# Altium integrated library VNA.IntLib: 78 symbols (part 1 of 2)
Pins are listed as number, name and electrical type; pins without a type are passive.

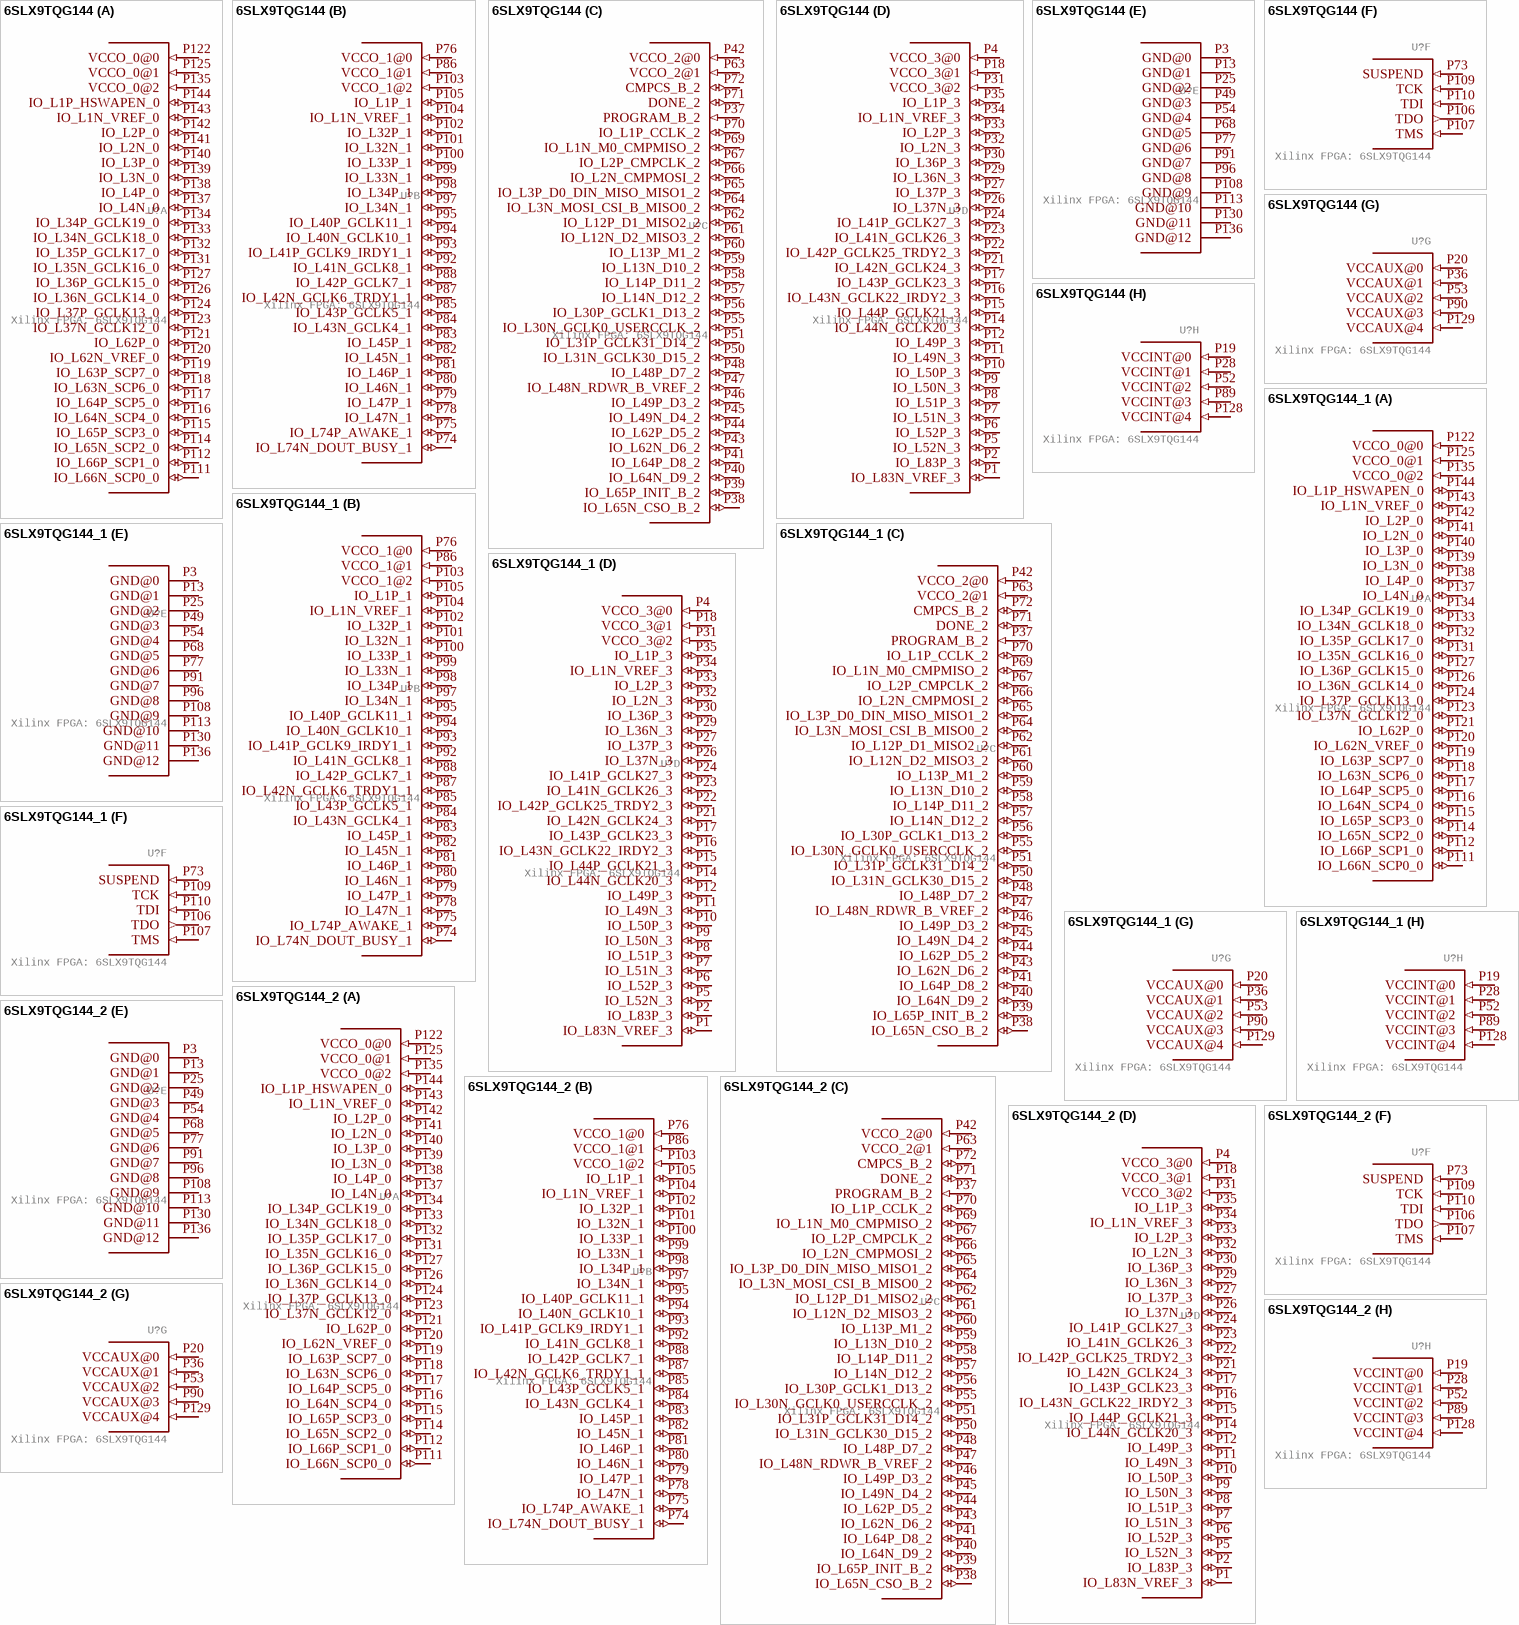
[diagram p0: symbols 6SLX9TQG144 to 6SLX9TQG144_2]

## 6SLX9TQG144
designator U?, comment Xilinx FPGA: 6SLX9TQG144
GateName_1: B0; SymbolName_1: 6SLX9TQG144_0; GateName_2: B1; SymbolName_2: 6SLX9TQG144_1; GateName_3: B2; SymbolName_3: 6SLX9TQG144_2; GateName_4: B3; SymbolName_4: 6SLX9TQG144_3; GateName_5: BGND; SymbolName_5: 6SLX9TQG144_GND; GateName_6: BNA; SymbolName_6: 6SLX9TQG144_NA; GateName_7: BVCCAUX; SymbolName_7: 6SLX9TQG144_VCCAUX; GateName_8: BVCCINT; SymbolName_8: 6SLX9TQG144_VCCINT; LibraryName: VNA; DeviceSetName: 6SLX9TQG144; Package: TQ144
footprint TQ144
part A pins: P111 IO_L66N_SCP0_0 (io), P112 IO_L66P_SCP1_0 (io), P114 IO_L65N_SCP2_0 (io), P115 IO_L65P_SCP3_0 (io), P116 IO_L64N_SCP4_0 (io), P117 IO_L64P_SCP5_0 (io), P118 IO_L63N_SCP6_0 (io), P119 IO_L63P_SCP7_0 (io), P120 IO_L62N_VREF_0 (io), P121 IO_L62P_0 (io), P122 VCCO_0@0 (in), P123 IO_L37N_GCLK12_0 (io), P124 IO_L37P_GCLK13_0 (io), P125 VCCO_0@1 (in), P126 IO_L36N_GCLK14_0 (io), P127 IO_L36P_GCLK15_0 (io), P131 IO_L35N_GCLK16_0 (io), P132 IO_L35P_GCLK17_0 (io), P133 IO_L34N_GCLK18_0 (io), P134 IO_L34P_GCLK19_0 (io), P135 VCCO_0@2 (in), P137 IO_L4N_0 (io), P138 IO_L4P_0 (io), P139 IO_L3N_0 (io), P140 IO_L3P_0 (io), P141 IO_L2N_0 (io), P142 IO_L2P_0 (io), P143 IO_L1N_VREF_0 (io), P144 IO_L1P_HSWAPEN_0 (io)
part B pins: P74 IO_L74N_DOUT_BUSY_1 (io), P75 IO_L74P_AWAKE_1 (io), P76 VCCO_1@0 (in), P78 IO_L47N_1 (io), P79 IO_L47P_1 (io), P80 IO_L46N_1 (io), P81 IO_L46P_1 (io), P82 IO_L45N_1 (io), P83 IO_L45P_1 (io), P84 IO_L43N_GCLK4_1 (io), P85 IO_L43P_GCLK5_1 (io), P86 VCCO_1@1 (in), P87 IO_L42N_GCLK6_TRDY1_1 (io), P88 IO_L42P_GCLK7_1 (io), P92 IO_L41N_GCLK8_1 (io), P93 IO_L41P_GCLK9_IRDY1_1 (io), P94 IO_L40N_GCLK10_1 (io), P95 IO_L40P_GCLK11_1 (io), P97 IO_L34N_1 (io), P98 IO_L34P_1 (io), P99 IO_L33N_1 (io), P100 IO_L33P_1 (io), P101 IO_L32N_1 (io), P102 IO_L32P_1 (io), P103 VCCO_1@2 (in), P104 IO_L1N_VREF_1 (io), P105 IO_L1P_1 (io)
part C pins: P37 PROGRAM_B_2 (in), P38 IO_L65N_CSO_B_2 (io), P39 IO_L65P_INIT_B_2 (io), P40 IO_L64N_D9_2 (io), P41 IO_L64P_D8_2 (io), P42 VCCO_2@0 (in), P43 IO_L62N_D6_2 (io), P44 IO_L62P_D5_2 (io), P45 IO_L49N_D4_2 (io), P46 IO_L49P_D3_2 (io), P47 IO_L48N_RDWR_B_VREF_2 (io), P48 IO_L48P_D7_2 (io), P50 IO_L31N_GCLK30_D15_2 (io), P51 IO_L31P_GCLK31_D14_2 (io), P55 IO_L30N_GCLK0_USERCCLK_2 (io), P56 IO_L30P_GCLK1_D13_2 (io), P57 IO_L14N_D12_2 (io), P58 IO_L14P_D11_2 (io), P59 IO_L13N_D10_2 (io), P60 IO_L13P_M1_2 (io), P61 IO_L12N_D2_MISO3_2 (io), P62 IO_L12P_D1_MISO2_2 (io), P63 VCCO_2@1 (in), P64 IO_L3N_MOSI_CSI_B_MISO0_2 (io), P65 IO_L3P_D0_DIN_MISO_MISO1_2 (io), P66 IO_L2N_CMPMOSI_2 (io), P67 IO_L2P_CMPCLK_2 (io), P69 IO_L1N_M0_CMPMISO_2 (io), P70 IO_L1P_CCLK_2 (io), P71 DONE_2 (io), P72 CMPCS_B_2 (io)
part D pins: P1 IO_L83N_VREF_3 (io), P2 IO_L83P_3 (io), P4 VCCO_3@0 (in), P5 IO_L52N_3 (io), P6 IO_L52P_3 (io), P7 IO_L51N_3 (io), P8 IO_L51P_3 (io), P9 IO_L50N_3 (io), P10 IO_L50P_3 (io), P11 IO_L49N_3 (io), P12 IO_L49P_3 (io), P14 IO_L44N_GCLK20_3 (io), P15 IO_L44P_GCLK21_3 (io), P16 IO_L43N_GCLK22_IRDY2_3 (io), P17 IO_L43P_GCLK23_3 (io), P18 VCCO_3@1 (in), P21 IO_L42N_GCLK24_3 (io), P22 IO_L42P_GCLK25_TRDY2_3 (io), P23 IO_L41N_GCLK26_3 (io), P24 IO_L41P_GCLK27_3 (io), P26 IO_L37N_3 (io), P27 IO_L37P_3 (io), P29 IO_L36N_3 (io), P30 IO_L36P_3 (io), P31 VCCO_3@2 (in), P32 IO_L2N_3 (io), P33 IO_L2P_3 (io), P34 IO_L1N_VREF_3 (io), P35 IO_L1P_3 (io)
part E pins: P3 GND@0 (power), P13 GND@1 (power), P25 GND@2 (power), P49 GND@3 (power), P54 GND@4 (power), P68 GND@5 (power), P77 GND@6 (power), P91 GND@7 (power), P96 GND@8 (power), P108 GND@9 (power), P113 GND@10 (power), P130 GND@11 (power), P136 GND@12 (power)
part F pins: P73 SUSPEND (in), P106 TDO (out), P107 TMS (in), P109 TCK (in), P110 TDI (in)
part G pins: P20 VCCAUX@0 (in), P36 VCCAUX@1 (in), P53 VCCAUX@2 (in), P90 VCCAUX@3 (in), P129 VCCAUX@4 (in)
part H pins: P19 VCCINT@0 (in), P28 VCCINT@1 (in), P52 VCCINT@2 (in), P89 VCCINT@3 (in), P128 VCCINT@4 (in)

## 6SLX9TQG144_1
designator U?, comment Xilinx FPGA: 6SLX9TQG144
GateName_1: B0; SymbolName_1: 6SLX9TQG144_0; GateName_2: B1; SymbolName_2: 6SLX9TQG144_1; GateName_3: B2; SymbolName_3: 6SLX9TQG144_2; GateName_4: B3; SymbolName_4: 6SLX9TQG144_3; GateName_5: BGND; SymbolName_5: 6SLX9TQG144_GND; GateName_6: BNA; SymbolName_6: 6SLX9TQG144_NA; GateName_7: BVCCAUX; SymbolName_7: 6SLX9TQG144_VCCAUX; GateName_8: BVCCINT; SymbolName_8: 6SLX9TQG144_VCCINT; LibraryName: VNA; DeviceSetName: 6SLX9TQG144; Package: TQ144
footprint TQ144
part A pins: P111 IO_L66N_SCP0_0 (io), P112 IO_L66P_SCP1_0 (io), P114 IO_L65N_SCP2_0 (io), P115 IO_L65P_SCP3_0 (io), P116 IO_L64N_SCP4_0 (io), P117 IO_L64P_SCP5_0 (io), P118 IO_L63N_SCP6_0 (io), P119 IO_L63P_SCP7_0 (io), P120 IO_L62N_VREF_0 (io), P121 IO_L62P_0 (io), P122 VCCO_0@0 (in), P123 IO_L37N_GCLK12_0 (io), P124 IO_L37P_GCLK13_0 (io), P125 VCCO_0@1 (in), P126 IO_L36N_GCLK14_0 (io), P127 IO_L36P_GCLK15_0 (io), P131 IO_L35N_GCLK16_0 (io), P132 IO_L35P_GCLK17_0 (io), P133 IO_L34N_GCLK18_0 (io), P134 IO_L34P_GCLK19_0 (io), P135 VCCO_0@2 (in), P137 IO_L4N_0 (io), P138 IO_L4P_0 (io), P139 IO_L3N_0 (io), P140 IO_L3P_0 (io), P141 IO_L2N_0 (io), P142 IO_L2P_0 (io), P143 IO_L1N_VREF_0 (io), P144 IO_L1P_HSWAPEN_0 (io)
part B pins: P74 IO_L74N_DOUT_BUSY_1 (io), P75 IO_L74P_AWAKE_1 (io), P76 VCCO_1@0 (in), P78 IO_L47N_1 (io), P79 IO_L47P_1 (io), P80 IO_L46N_1 (io), P81 IO_L46P_1 (io), P82 IO_L45N_1 (io), P83 IO_L45P_1 (io), P84 IO_L43N_GCLK4_1 (io), P85 IO_L43P_GCLK5_1 (io), P86 VCCO_1@1 (in), P87 IO_L42N_GCLK6_TRDY1_1 (io), P88 IO_L42P_GCLK7_1 (io), P92 IO_L41N_GCLK8_1 (io), P93 IO_L41P_GCLK9_IRDY1_1 (io), P94 IO_L40N_GCLK10_1 (io), P95 IO_L40P_GCLK11_1 (io), P97 IO_L34N_1 (io), P98 IO_L34P_1 (io), P99 IO_L33N_1 (io), P100 IO_L33P_1 (io), P101 IO_L32N_1 (io), P102 IO_L32P_1 (io), P103 VCCO_1@2 (in), P104 IO_L1N_VREF_1 (io), P105 IO_L1P_1 (io)
part C pins: P37 PROGRAM_B_2 (in), P38 IO_L65N_CSO_B_2 (io), P39 IO_L65P_INIT_B_2 (io), P40 IO_L64N_D9_2 (io), P41 IO_L64P_D8_2 (io), P42 VCCO_2@0 (in), P43 IO_L62N_D6_2 (io), P44 IO_L62P_D5_2 (io), P45 IO_L49N_D4_2 (io), P46 IO_L49P_D3_2 (io), P47 IO_L48N_RDWR_B_VREF_2 (io), P48 IO_L48P_D7_2 (io), P50 IO_L31N_GCLK30_D15_2 (io), P51 IO_L31P_GCLK31_D14_2 (io), P55 IO_L30N_GCLK0_USERCCLK_2 (io), P56 IO_L30P_GCLK1_D13_2 (io), P57 IO_L14N_D12_2 (io), P58 IO_L14P_D11_2 (io), P59 IO_L13N_D10_2 (io), P60 IO_L13P_M1_2 (io), P61 IO_L12N_D2_MISO3_2 (io), P62 IO_L12P_D1_MISO2_2 (io), P63 VCCO_2@1 (in), P64 IO_L3N_MOSI_CSI_B_MISO0_2 (io), P65 IO_L3P_D0_DIN_MISO_MISO1_2 (io), P66 IO_L2N_CMPMOSI_2 (io), P67 IO_L2P_CMPCLK_2 (io), P69 IO_L1N_M0_CMPMISO_2 (io), P70 IO_L1P_CCLK_2 (io), P71 DONE_2 (io), P72 CMPCS_B_2 (io)
part D pins: P1 IO_L83N_VREF_3 (io), P2 IO_L83P_3 (io), P4 VCCO_3@0 (in), P5 IO_L52N_3 (io), P6 IO_L52P_3 (io), P7 IO_L51N_3 (io), P8 IO_L51P_3 (io), P9 IO_L50N_3 (io), P10 IO_L50P_3 (io), P11 IO_L49N_3 (io), P12 IO_L49P_3 (io), P14 IO_L44N_GCLK20_3 (io), P15 IO_L44P_GCLK21_3 (io), P16 IO_L43N_GCLK22_IRDY2_3 (io), P17 IO_L43P_GCLK23_3 (io), P18 VCCO_3@1 (in), P21 IO_L42N_GCLK24_3 (io), P22 IO_L42P_GCLK25_TRDY2_3 (io), P23 IO_L41N_GCLK26_3 (io), P24 IO_L41P_GCLK27_3 (io), P26 IO_L37N_3 (io), P27 IO_L37P_3 (io), P29 IO_L36N_3 (io), P30 IO_L36P_3 (io), P31 VCCO_3@2 (in), P32 IO_L2N_3 (io), P33 IO_L2P_3 (io), P34 IO_L1N_VREF_3 (io), P35 IO_L1P_3 (io)
part E pins: P3 GND@0 (power), P13 GND@1 (power), P25 GND@2 (power), P49 GND@3 (power), P54 GND@4 (power), P68 GND@5 (power), P77 GND@6 (power), P91 GND@7 (power), P96 GND@8 (power), P108 GND@9 (power), P113 GND@10 (power), P130 GND@11 (power), P136 GND@12 (power)
part F pins: P73 SUSPEND (in), P106 TDO (out), P107 TMS (in), P109 TCK (in), P110 TDI (in)
part G pins: P20 VCCAUX@0 (in), P36 VCCAUX@1 (in), P53 VCCAUX@2 (in), P90 VCCAUX@3 (in), P129 VCCAUX@4 (in)
part H pins: P19 VCCINT@0 (in), P28 VCCINT@1 (in), P52 VCCINT@2 (in), P89 VCCINT@3 (in), P128 VCCINT@4 (in)

## 6SLX9TQG144_2
designator U?, comment Xilinx FPGA: 6SLX9TQG144
GateName_1: B0; SymbolName_1: 6SLX9TQG144_0; GateName_2: B1; SymbolName_2: 6SLX9TQG144_1; GateName_3: B2; SymbolName_3: 6SLX9TQG144_2; GateName_4: B3; SymbolName_4: 6SLX9TQG144_3; GateName_5: BGND; SymbolName_5: 6SLX9TQG144_GND; GateName_6: BNA; SymbolName_6: 6SLX9TQG144_NA; GateName_7: BVCCAUX; SymbolName_7: 6SLX9TQG144_VCCAUX; GateName_8: BVCCINT; SymbolName_8: 6SLX9TQG144_VCCINT; LibraryName: VNA; DeviceSetName: 6SLX9TQG144; Package: TQ144
footprint TQ144
part A pins: P111 IO_L66N_SCP0_0 (io), P112 IO_L66P_SCP1_0 (io), P114 IO_L65N_SCP2_0 (io), P115 IO_L65P_SCP3_0 (io), P116 IO_L64N_SCP4_0 (io), P117 IO_L64P_SCP5_0 (io), P118 IO_L63N_SCP6_0 (io), P119 IO_L63P_SCP7_0 (io), P120 IO_L62N_VREF_0 (io), P121 IO_L62P_0 (io), P122 VCCO_0@0 (in), P123 IO_L37N_GCLK12_0 (io), P124 IO_L37P_GCLK13_0 (io), P125 VCCO_0@1 (in), P126 IO_L36N_GCLK14_0 (io), P127 IO_L36P_GCLK15_0 (io), P131 IO_L35N_GCLK16_0 (io), P132 IO_L35P_GCLK17_0 (io), P133 IO_L34N_GCLK18_0 (io), P134 IO_L34P_GCLK19_0 (io), P135 VCCO_0@2 (in), P137 IO_L4N_0 (io), P138 IO_L4P_0 (io), P139 IO_L3N_0 (io), P140 IO_L3P_0 (io), P141 IO_L2N_0 (io), P142 IO_L2P_0 (io), P143 IO_L1N_VREF_0 (io), P144 IO_L1P_HSWAPEN_0 (io)
part B pins: P74 IO_L74N_DOUT_BUSY_1 (io), P75 IO_L74P_AWAKE_1 (io), P76 VCCO_1@0 (in), P78 IO_L47N_1 (io), P79 IO_L47P_1 (io), P80 IO_L46N_1 (io), P81 IO_L46P_1 (io), P82 IO_L45N_1 (io), P83 IO_L45P_1 (io), P84 IO_L43N_GCLK4_1 (io), P85 IO_L43P_GCLK5_1 (io), P86 VCCO_1@1 (in), P87 IO_L42N_GCLK6_TRDY1_1 (io), P88 IO_L42P_GCLK7_1 (io), P92 IO_L41N_GCLK8_1 (io), P93 IO_L41P_GCLK9_IRDY1_1 (io), P94 IO_L40N_GCLK10_1 (io), P95 IO_L40P_GCLK11_1 (io), P97 IO_L34N_1 (io), P98 IO_L34P_1 (io), P99 IO_L33N_1 (io), P100 IO_L33P_1 (io), P101 IO_L32N_1 (io), P102 IO_L32P_1 (io), P103 VCCO_1@2 (in), P104 IO_L1N_VREF_1 (io), P105 IO_L1P_1 (io)
part C pins: P37 PROGRAM_B_2 (in), P38 IO_L65N_CSO_B_2 (io), P39 IO_L65P_INIT_B_2 (io), P40 IO_L64N_D9_2 (io), P41 IO_L64P_D8_2 (io), P42 VCCO_2@0 (in), P43 IO_L62N_D6_2 (io), P44 IO_L62P_D5_2 (io), P45 IO_L49N_D4_2 (io), P46 IO_L49P_D3_2 (io), P47 IO_L48N_RDWR_B_VREF_2 (io), P48 IO_L48P_D7_2 (io), P50 IO_L31N_GCLK30_D15_2 (io), P51 IO_L31P_GCLK31_D14_2 (io), P55 IO_L30N_GCLK0_USERCCLK_2 (io), P56 IO_L30P_GCLK1_D13_2 (io), P57 IO_L14N_D12_2 (io), P58 IO_L14P_D11_2 (io), P59 IO_L13N_D10_2 (io), P60 IO_L13P_M1_2 (io), P61 IO_L12N_D2_MISO3_2 (io), P62 IO_L12P_D1_MISO2_2 (io), P63 VCCO_2@1 (in), P64 IO_L3N_MOSI_CSI_B_MISO0_2 (io), P65 IO_L3P_D0_DIN_MISO_MISO1_2 (io), P66 IO_L2N_CMPMOSI_2 (io), P67 IO_L2P_CMPCLK_2 (io), P69 IO_L1N_M0_CMPMISO_2 (io), P70 IO_L1P_CCLK_2 (io), P71 DONE_2 (io), P72 CMPCS_B_2 (io)
part D pins: P1 IO_L83N_VREF_3 (io), P2 IO_L83P_3 (io), P4 VCCO_3@0 (in), P5 IO_L52N_3 (io), P6 IO_L52P_3 (io), P7 IO_L51N_3 (io), P8 IO_L51P_3 (io), P9 IO_L50N_3 (io), P10 IO_L50P_3 (io), P11 IO_L49N_3 (io), P12 IO_L49P_3 (io), P14 IO_L44N_GCLK20_3 (io), P15 IO_L44P_GCLK21_3 (io), P16 IO_L43N_GCLK22_IRDY2_3 (io), P17 IO_L43P_GCLK23_3 (io), P18 VCCO_3@1 (in), P21 IO_L42N_GCLK24_3 (io), P22 IO_L42P_GCLK25_TRDY2_3 (io), P23 IO_L41N_GCLK26_3 (io), P24 IO_L41P_GCLK27_3 (io), P26 IO_L37N_3 (io), P27 IO_L37P_3 (io), P29 IO_L36N_3 (io), P30 IO_L36P_3 (io), P31 VCCO_3@2 (in), P32 IO_L2N_3 (io), P33 IO_L2P_3 (io), P34 IO_L1N_VREF_3 (io), P35 IO_L1P_3 (io)
part E pins: P3 GND@0 (power), P13 GND@1 (power), P25 GND@2 (power), P49 GND@3 (power), P54 GND@4 (power), P68 GND@5 (power), P77 GND@6 (power), P91 GND@7 (power), P96 GND@8 (power), P108 GND@9 (power), P113 GND@10 (power), P130 GND@11 (power), P136 GND@12 (power)
part F pins: P73 SUSPEND (in), P106 TDO (out), P107 TMS (in), P109 TCK (in), P110 TDI (in)
part G pins: P20 VCCAUX@0 (in), P36 VCCAUX@1 (in), P53 VCCAUX@2 (in), P90 VCCAUX@3 (in), P129 VCCAUX@4 (in)
part H pins: P19 VCCINT@0 (in), P28 VCCINT@1 (in), P52 VCCINT@2 (in), P89 VCCINT@3 (in), P128 VCCINT@4 (in)

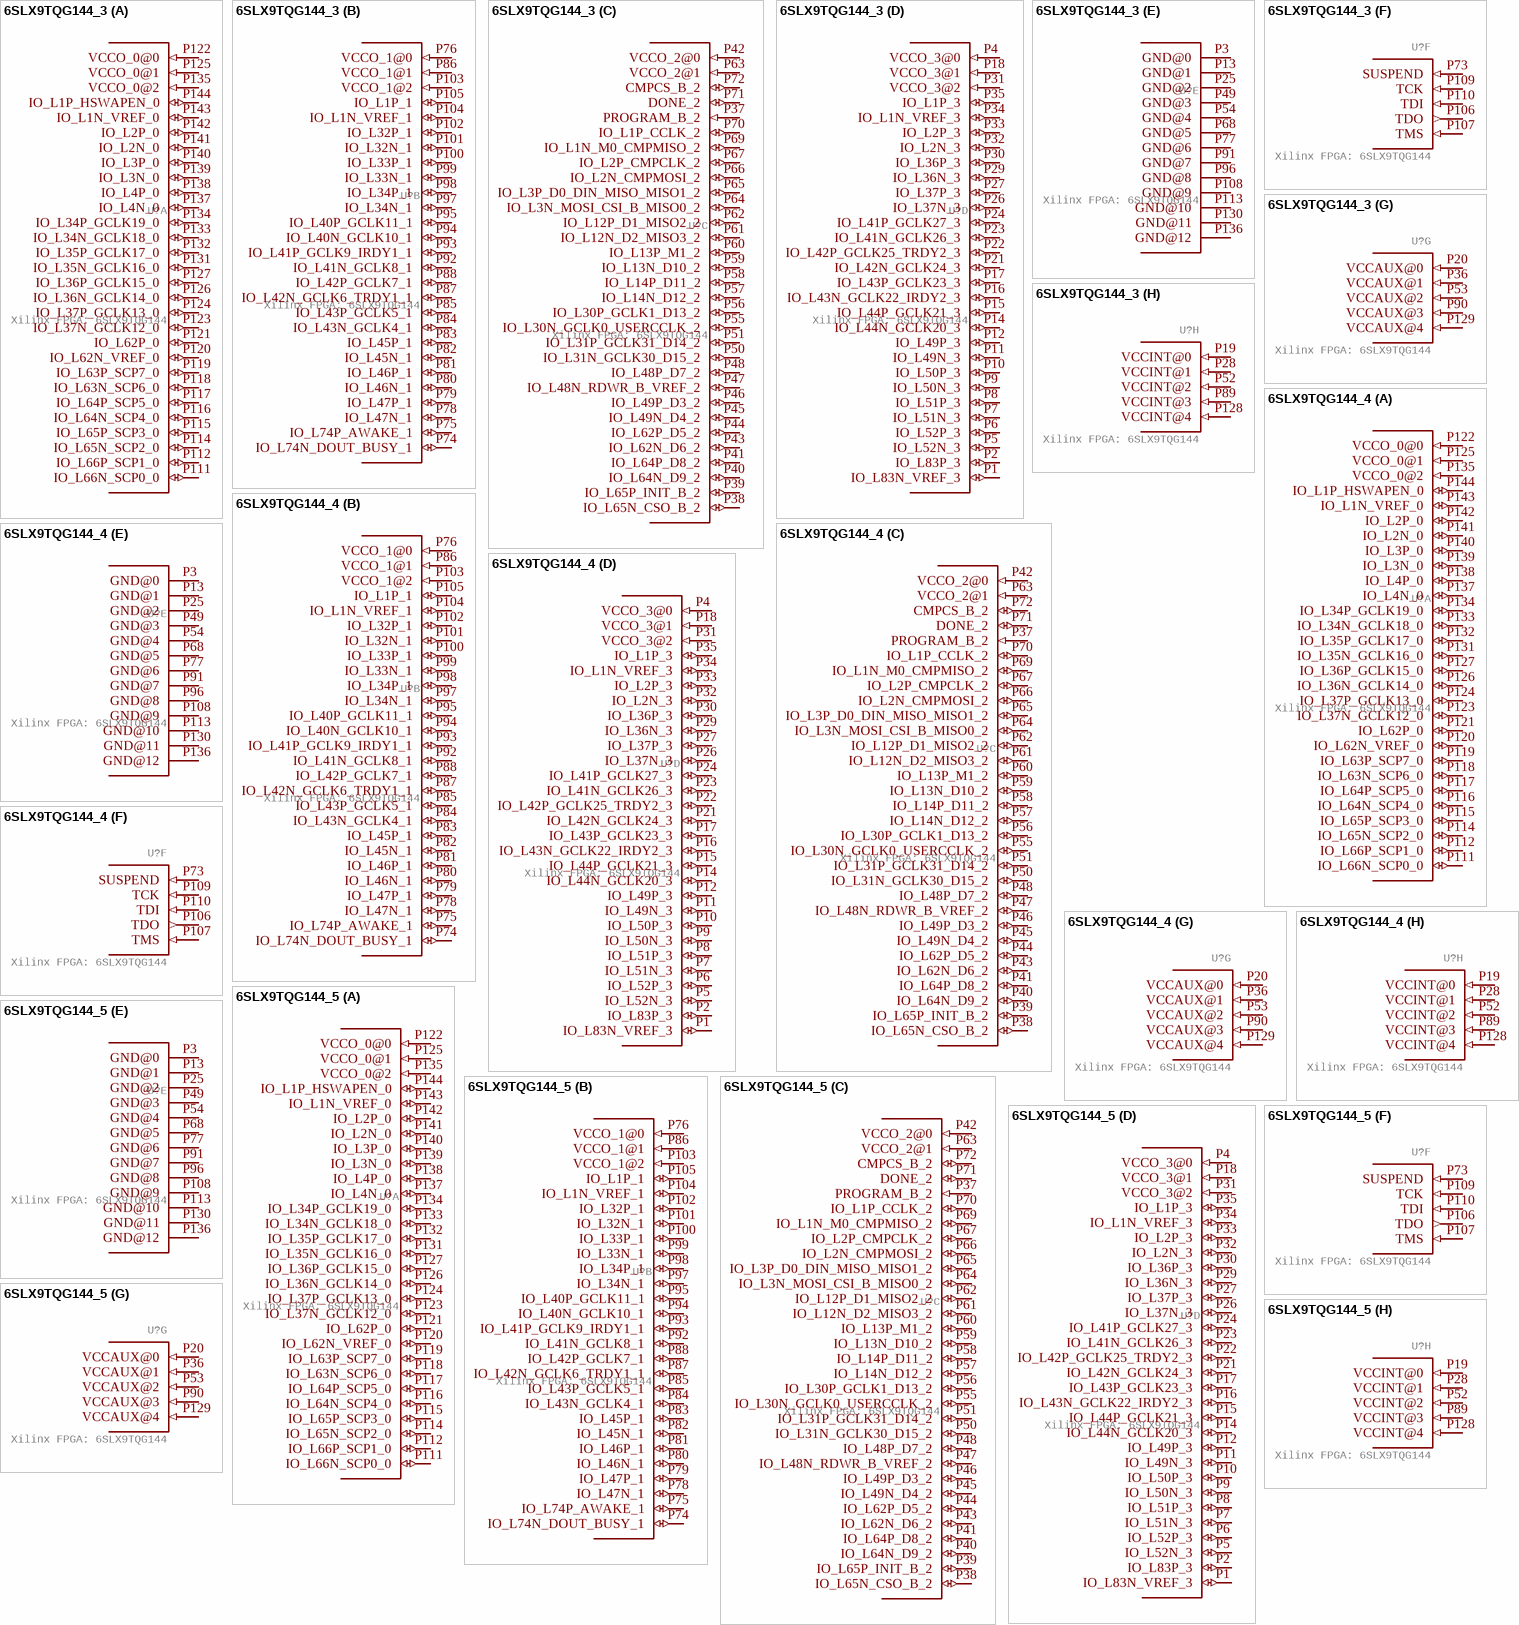
[diagram p1: symbols 6SLX9TQG144_3 to 6SLX9TQG144_5]

## 6SLX9TQG144_3
designator U?, comment Xilinx FPGA: 6SLX9TQG144
GateName_1: B0; SymbolName_1: 6SLX9TQG144_0; GateName_2: B1; SymbolName_2: 6SLX9TQG144_1; GateName_3: B2; SymbolName_3: 6SLX9TQG144_2; GateName_4: B3; SymbolName_4: 6SLX9TQG144_3; GateName_5: BGND; SymbolName_5: 6SLX9TQG144_GND; GateName_6: BNA; SymbolName_6: 6SLX9TQG144_NA; GateName_7: BVCCAUX; SymbolName_7: 6SLX9TQG144_VCCAUX; GateName_8: BVCCINT; SymbolName_8: 6SLX9TQG144_VCCINT; LibraryName: VNA; DeviceSetName: 6SLX9TQG144; Package: TQ144
footprint TQ144
part A pins: P111 IO_L66N_SCP0_0 (io), P112 IO_L66P_SCP1_0 (io), P114 IO_L65N_SCP2_0 (io), P115 IO_L65P_SCP3_0 (io), P116 IO_L64N_SCP4_0 (io), P117 IO_L64P_SCP5_0 (io), P118 IO_L63N_SCP6_0 (io), P119 IO_L63P_SCP7_0 (io), P120 IO_L62N_VREF_0 (io), P121 IO_L62P_0 (io), P122 VCCO_0@0 (in), P123 IO_L37N_GCLK12_0 (io), P124 IO_L37P_GCLK13_0 (io), P125 VCCO_0@1 (in), P126 IO_L36N_GCLK14_0 (io), P127 IO_L36P_GCLK15_0 (io), P131 IO_L35N_GCLK16_0 (io), P132 IO_L35P_GCLK17_0 (io), P133 IO_L34N_GCLK18_0 (io), P134 IO_L34P_GCLK19_0 (io), P135 VCCO_0@2 (in), P137 IO_L4N_0 (io), P138 IO_L4P_0 (io), P139 IO_L3N_0 (io), P140 IO_L3P_0 (io), P141 IO_L2N_0 (io), P142 IO_L2P_0 (io), P143 IO_L1N_VREF_0 (io), P144 IO_L1P_HSWAPEN_0 (io)
part B pins: P74 IO_L74N_DOUT_BUSY_1 (io), P75 IO_L74P_AWAKE_1 (io), P76 VCCO_1@0 (in), P78 IO_L47N_1 (io), P79 IO_L47P_1 (io), P80 IO_L46N_1 (io), P81 IO_L46P_1 (io), P82 IO_L45N_1 (io), P83 IO_L45P_1 (io), P84 IO_L43N_GCLK4_1 (io), P85 IO_L43P_GCLK5_1 (io), P86 VCCO_1@1 (in), P87 IO_L42N_GCLK6_TRDY1_1 (io), P88 IO_L42P_GCLK7_1 (io), P92 IO_L41N_GCLK8_1 (io), P93 IO_L41P_GCLK9_IRDY1_1 (io), P94 IO_L40N_GCLK10_1 (io), P95 IO_L40P_GCLK11_1 (io), P97 IO_L34N_1 (io), P98 IO_L34P_1 (io), P99 IO_L33N_1 (io), P100 IO_L33P_1 (io), P101 IO_L32N_1 (io), P102 IO_L32P_1 (io), P103 VCCO_1@2 (in), P104 IO_L1N_VREF_1 (io), P105 IO_L1P_1 (io)
part C pins: P37 PROGRAM_B_2 (in), P38 IO_L65N_CSO_B_2 (io), P39 IO_L65P_INIT_B_2 (io), P40 IO_L64N_D9_2 (io), P41 IO_L64P_D8_2 (io), P42 VCCO_2@0 (in), P43 IO_L62N_D6_2 (io), P44 IO_L62P_D5_2 (io), P45 IO_L49N_D4_2 (io), P46 IO_L49P_D3_2 (io), P47 IO_L48N_RDWR_B_VREF_2 (io), P48 IO_L48P_D7_2 (io), P50 IO_L31N_GCLK30_D15_2 (io), P51 IO_L31P_GCLK31_D14_2 (io), P55 IO_L30N_GCLK0_USERCCLK_2 (io), P56 IO_L30P_GCLK1_D13_2 (io), P57 IO_L14N_D12_2 (io), P58 IO_L14P_D11_2 (io), P59 IO_L13N_D10_2 (io), P60 IO_L13P_M1_2 (io), P61 IO_L12N_D2_MISO3_2 (io), P62 IO_L12P_D1_MISO2_2 (io), P63 VCCO_2@1 (in), P64 IO_L3N_MOSI_CSI_B_MISO0_2 (io), P65 IO_L3P_D0_DIN_MISO_MISO1_2 (io), P66 IO_L2N_CMPMOSI_2 (io), P67 IO_L2P_CMPCLK_2 (io), P69 IO_L1N_M0_CMPMISO_2 (io), P70 IO_L1P_CCLK_2 (io), P71 DONE_2 (io), P72 CMPCS_B_2 (io)
part D pins: P1 IO_L83N_VREF_3 (io), P2 IO_L83P_3 (io), P4 VCCO_3@0 (in), P5 IO_L52N_3 (io), P6 IO_L52P_3 (io), P7 IO_L51N_3 (io), P8 IO_L51P_3 (io), P9 IO_L50N_3 (io), P10 IO_L50P_3 (io), P11 IO_L49N_3 (io), P12 IO_L49P_3 (io), P14 IO_L44N_GCLK20_3 (io), P15 IO_L44P_GCLK21_3 (io), P16 IO_L43N_GCLK22_IRDY2_3 (io), P17 IO_L43P_GCLK23_3 (io), P18 VCCO_3@1 (in), P21 IO_L42N_GCLK24_3 (io), P22 IO_L42P_GCLK25_TRDY2_3 (io), P23 IO_L41N_GCLK26_3 (io), P24 IO_L41P_GCLK27_3 (io), P26 IO_L37N_3 (io), P27 IO_L37P_3 (io), P29 IO_L36N_3 (io), P30 IO_L36P_3 (io), P31 VCCO_3@2 (in), P32 IO_L2N_3 (io), P33 IO_L2P_3 (io), P34 IO_L1N_VREF_3 (io), P35 IO_L1P_3 (io)
part E pins: P3 GND@0 (power), P13 GND@1 (power), P25 GND@2 (power), P49 GND@3 (power), P54 GND@4 (power), P68 GND@5 (power), P77 GND@6 (power), P91 GND@7 (power), P96 GND@8 (power), P108 GND@9 (power), P113 GND@10 (power), P130 GND@11 (power), P136 GND@12 (power)
part F pins: P73 SUSPEND (in), P106 TDO (out), P107 TMS (in), P109 TCK (in), P110 TDI (in)
part G pins: P20 VCCAUX@0 (in), P36 VCCAUX@1 (in), P53 VCCAUX@2 (in), P90 VCCAUX@3 (in), P129 VCCAUX@4 (in)
part H pins: P19 VCCINT@0 (in), P28 VCCINT@1 (in), P52 VCCINT@2 (in), P89 VCCINT@3 (in), P128 VCCINT@4 (in)

## 6SLX9TQG144_4
designator U?, comment Xilinx FPGA: 6SLX9TQG144
GateName_1: B0; SymbolName_1: 6SLX9TQG144_0; GateName_2: B1; SymbolName_2: 6SLX9TQG144_1; GateName_3: B2; SymbolName_3: 6SLX9TQG144_2; GateName_4: B3; SymbolName_4: 6SLX9TQG144_3; GateName_5: BGND; SymbolName_5: 6SLX9TQG144_GND; GateName_6: BNA; SymbolName_6: 6SLX9TQG144_NA; GateName_7: BVCCAUX; SymbolName_7: 6SLX9TQG144_VCCAUX; GateName_8: BVCCINT; SymbolName_8: 6SLX9TQG144_VCCINT; LibraryName: VNA; DeviceSetName: 6SLX9TQG144; Package: TQ144
footprint TQ144
part A pins: P111 IO_L66N_SCP0_0 (io), P112 IO_L66P_SCP1_0 (io), P114 IO_L65N_SCP2_0 (io), P115 IO_L65P_SCP3_0 (io), P116 IO_L64N_SCP4_0 (io), P117 IO_L64P_SCP5_0 (io), P118 IO_L63N_SCP6_0 (io), P119 IO_L63P_SCP7_0 (io), P120 IO_L62N_VREF_0 (io), P121 IO_L62P_0 (io), P122 VCCO_0@0 (in), P123 IO_L37N_GCLK12_0 (io), P124 IO_L37P_GCLK13_0 (io), P125 VCCO_0@1 (in), P126 IO_L36N_GCLK14_0 (io), P127 IO_L36P_GCLK15_0 (io), P131 IO_L35N_GCLK16_0 (io), P132 IO_L35P_GCLK17_0 (io), P133 IO_L34N_GCLK18_0 (io), P134 IO_L34P_GCLK19_0 (io), P135 VCCO_0@2 (in), P137 IO_L4N_0 (io), P138 IO_L4P_0 (io), P139 IO_L3N_0 (io), P140 IO_L3P_0 (io), P141 IO_L2N_0 (io), P142 IO_L2P_0 (io), P143 IO_L1N_VREF_0 (io), P144 IO_L1P_HSWAPEN_0 (io)
part B pins: P74 IO_L74N_DOUT_BUSY_1 (io), P75 IO_L74P_AWAKE_1 (io), P76 VCCO_1@0 (in), P78 IO_L47N_1 (io), P79 IO_L47P_1 (io), P80 IO_L46N_1 (io), P81 IO_L46P_1 (io), P82 IO_L45N_1 (io), P83 IO_L45P_1 (io), P84 IO_L43N_GCLK4_1 (io), P85 IO_L43P_GCLK5_1 (io), P86 VCCO_1@1 (in), P87 IO_L42N_GCLK6_TRDY1_1 (io), P88 IO_L42P_GCLK7_1 (io), P92 IO_L41N_GCLK8_1 (io), P93 IO_L41P_GCLK9_IRDY1_1 (io), P94 IO_L40N_GCLK10_1 (io), P95 IO_L40P_GCLK11_1 (io), P97 IO_L34N_1 (io), P98 IO_L34P_1 (io), P99 IO_L33N_1 (io), P100 IO_L33P_1 (io), P101 IO_L32N_1 (io), P102 IO_L32P_1 (io), P103 VCCO_1@2 (in), P104 IO_L1N_VREF_1 (io), P105 IO_L1P_1 (io)
part C pins: P37 PROGRAM_B_2 (in), P38 IO_L65N_CSO_B_2 (io), P39 IO_L65P_INIT_B_2 (io), P40 IO_L64N_D9_2 (io), P41 IO_L64P_D8_2 (io), P42 VCCO_2@0 (in), P43 IO_L62N_D6_2 (io), P44 IO_L62P_D5_2 (io), P45 IO_L49N_D4_2 (io), P46 IO_L49P_D3_2 (io), P47 IO_L48N_RDWR_B_VREF_2 (io), P48 IO_L48P_D7_2 (io), P50 IO_L31N_GCLK30_D15_2 (io), P51 IO_L31P_GCLK31_D14_2 (io), P55 IO_L30N_GCLK0_USERCCLK_2 (io), P56 IO_L30P_GCLK1_D13_2 (io), P57 IO_L14N_D12_2 (io), P58 IO_L14P_D11_2 (io), P59 IO_L13N_D10_2 (io), P60 IO_L13P_M1_2 (io), P61 IO_L12N_D2_MISO3_2 (io), P62 IO_L12P_D1_MISO2_2 (io), P63 VCCO_2@1 (in), P64 IO_L3N_MOSI_CSI_B_MISO0_2 (io), P65 IO_L3P_D0_DIN_MISO_MISO1_2 (io), P66 IO_L2N_CMPMOSI_2 (io), P67 IO_L2P_CMPCLK_2 (io), P69 IO_L1N_M0_CMPMISO_2 (io), P70 IO_L1P_CCLK_2 (io), P71 DONE_2 (io), P72 CMPCS_B_2 (io)
part D pins: P1 IO_L83N_VREF_3 (io), P2 IO_L83P_3 (io), P4 VCCO_3@0 (in), P5 IO_L52N_3 (io), P6 IO_L52P_3 (io), P7 IO_L51N_3 (io), P8 IO_L51P_3 (io), P9 IO_L50N_3 (io), P10 IO_L50P_3 (io), P11 IO_L49N_3 (io), P12 IO_L49P_3 (io), P14 IO_L44N_GCLK20_3 (io), P15 IO_L44P_GCLK21_3 (io), P16 IO_L43N_GCLK22_IRDY2_3 (io), P17 IO_L43P_GCLK23_3 (io), P18 VCCO_3@1 (in), P21 IO_L42N_GCLK24_3 (io), P22 IO_L42P_GCLK25_TRDY2_3 (io), P23 IO_L41N_GCLK26_3 (io), P24 IO_L41P_GCLK27_3 (io), P26 IO_L37N_3 (io), P27 IO_L37P_3 (io), P29 IO_L36N_3 (io), P30 IO_L36P_3 (io), P31 VCCO_3@2 (in), P32 IO_L2N_3 (io), P33 IO_L2P_3 (io), P34 IO_L1N_VREF_3 (io), P35 IO_L1P_3 (io)
part E pins: P3 GND@0 (power), P13 GND@1 (power), P25 GND@2 (power), P49 GND@3 (power), P54 GND@4 (power), P68 GND@5 (power), P77 GND@6 (power), P91 GND@7 (power), P96 GND@8 (power), P108 GND@9 (power), P113 GND@10 (power), P130 GND@11 (power), P136 GND@12 (power)
part F pins: P73 SUSPEND (in), P106 TDO (out), P107 TMS (in), P109 TCK (in), P110 TDI (in)
part G pins: P20 VCCAUX@0 (in), P36 VCCAUX@1 (in), P53 VCCAUX@2 (in), P90 VCCAUX@3 (in), P129 VCCAUX@4 (in)
part H pins: P19 VCCINT@0 (in), P28 VCCINT@1 (in), P52 VCCINT@2 (in), P89 VCCINT@3 (in), P128 VCCINT@4 (in)

## 6SLX9TQG144_5
designator U?, comment Xilinx FPGA: 6SLX9TQG144
GateName_1: B0; SymbolName_1: 6SLX9TQG144_0; GateName_2: B1; SymbolName_2: 6SLX9TQG144_1; GateName_3: B2; SymbolName_3: 6SLX9TQG144_2; GateName_4: B3; SymbolName_4: 6SLX9TQG144_3; GateName_5: BGND; SymbolName_5: 6SLX9TQG144_GND; GateName_6: BNA; SymbolName_6: 6SLX9TQG144_NA; GateName_7: BVCCAUX; SymbolName_7: 6SLX9TQG144_VCCAUX; GateName_8: BVCCINT; SymbolName_8: 6SLX9TQG144_VCCINT; LibraryName: VNA; DeviceSetName: 6SLX9TQG144; Package: TQ144
footprint TQ144
part A pins: P111 IO_L66N_SCP0_0 (io), P112 IO_L66P_SCP1_0 (io), P114 IO_L65N_SCP2_0 (io), P115 IO_L65P_SCP3_0 (io), P116 IO_L64N_SCP4_0 (io), P117 IO_L64P_SCP5_0 (io), P118 IO_L63N_SCP6_0 (io), P119 IO_L63P_SCP7_0 (io), P120 IO_L62N_VREF_0 (io), P121 IO_L62P_0 (io), P122 VCCO_0@0 (in), P123 IO_L37N_GCLK12_0 (io), P124 IO_L37P_GCLK13_0 (io), P125 VCCO_0@1 (in), P126 IO_L36N_GCLK14_0 (io), P127 IO_L36P_GCLK15_0 (io), P131 IO_L35N_GCLK16_0 (io), P132 IO_L35P_GCLK17_0 (io), P133 IO_L34N_GCLK18_0 (io), P134 IO_L34P_GCLK19_0 (io), P135 VCCO_0@2 (in), P137 IO_L4N_0 (io), P138 IO_L4P_0 (io), P139 IO_L3N_0 (io), P140 IO_L3P_0 (io), P141 IO_L2N_0 (io), P142 IO_L2P_0 (io), P143 IO_L1N_VREF_0 (io), P144 IO_L1P_HSWAPEN_0 (io)
part B pins: P74 IO_L74N_DOUT_BUSY_1 (io), P75 IO_L74P_AWAKE_1 (io), P76 VCCO_1@0 (in), P78 IO_L47N_1 (io), P79 IO_L47P_1 (io), P80 IO_L46N_1 (io), P81 IO_L46P_1 (io), P82 IO_L45N_1 (io), P83 IO_L45P_1 (io), P84 IO_L43N_GCLK4_1 (io), P85 IO_L43P_GCLK5_1 (io), P86 VCCO_1@1 (in), P87 IO_L42N_GCLK6_TRDY1_1 (io), P88 IO_L42P_GCLK7_1 (io), P92 IO_L41N_GCLK8_1 (io), P93 IO_L41P_GCLK9_IRDY1_1 (io), P94 IO_L40N_GCLK10_1 (io), P95 IO_L40P_GCLK11_1 (io), P97 IO_L34N_1 (io), P98 IO_L34P_1 (io), P99 IO_L33N_1 (io), P100 IO_L33P_1 (io), P101 IO_L32N_1 (io), P102 IO_L32P_1 (io), P103 VCCO_1@2 (in), P104 IO_L1N_VREF_1 (io), P105 IO_L1P_1 (io)
part C pins: P37 PROGRAM_B_2 (in), P38 IO_L65N_CSO_B_2 (io), P39 IO_L65P_INIT_B_2 (io), P40 IO_L64N_D9_2 (io), P41 IO_L64P_D8_2 (io), P42 VCCO_2@0 (in), P43 IO_L62N_D6_2 (io), P44 IO_L62P_D5_2 (io), P45 IO_L49N_D4_2 (io), P46 IO_L49P_D3_2 (io), P47 IO_L48N_RDWR_B_VREF_2 (io), P48 IO_L48P_D7_2 (io), P50 IO_L31N_GCLK30_D15_2 (io), P51 IO_L31P_GCLK31_D14_2 (io), P55 IO_L30N_GCLK0_USERCCLK_2 (io), P56 IO_L30P_GCLK1_D13_2 (io), P57 IO_L14N_D12_2 (io), P58 IO_L14P_D11_2 (io), P59 IO_L13N_D10_2 (io), P60 IO_L13P_M1_2 (io), P61 IO_L12N_D2_MISO3_2 (io), P62 IO_L12P_D1_MISO2_2 (io), P63 VCCO_2@1 (in), P64 IO_L3N_MOSI_CSI_B_MISO0_2 (io), P65 IO_L3P_D0_DIN_MISO_MISO1_2 (io), P66 IO_L2N_CMPMOSI_2 (io), P67 IO_L2P_CMPCLK_2 (io), P69 IO_L1N_M0_CMPMISO_2 (io), P70 IO_L1P_CCLK_2 (io), P71 DONE_2 (io), P72 CMPCS_B_2 (io)
part D pins: P1 IO_L83N_VREF_3 (io), P2 IO_L83P_3 (io), P4 VCCO_3@0 (in), P5 IO_L52N_3 (io), P6 IO_L52P_3 (io), P7 IO_L51N_3 (io), P8 IO_L51P_3 (io), P9 IO_L50N_3 (io), P10 IO_L50P_3 (io), P11 IO_L49N_3 (io), P12 IO_L49P_3 (io), P14 IO_L44N_GCLK20_3 (io), P15 IO_L44P_GCLK21_3 (io), P16 IO_L43N_GCLK22_IRDY2_3 (io), P17 IO_L43P_GCLK23_3 (io), P18 VCCO_3@1 (in), P21 IO_L42N_GCLK24_3 (io), P22 IO_L42P_GCLK25_TRDY2_3 (io), P23 IO_L41N_GCLK26_3 (io), P24 IO_L41P_GCLK27_3 (io), P26 IO_L37N_3 (io), P27 IO_L37P_3 (io), P29 IO_L36N_3 (io), P30 IO_L36P_3 (io), P31 VCCO_3@2 (in), P32 IO_L2N_3 (io), P33 IO_L2P_3 (io), P34 IO_L1N_VREF_3 (io), P35 IO_L1P_3 (io)
part E pins: P3 GND@0 (power), P13 GND@1 (power), P25 GND@2 (power), P49 GND@3 (power), P54 GND@4 (power), P68 GND@5 (power), P77 GND@6 (power), P91 GND@7 (power), P96 GND@8 (power), P108 GND@9 (power), P113 GND@10 (power), P130 GND@11 (power), P136 GND@12 (power)
part F pins: P73 SUSPEND (in), P106 TDO (out), P107 TMS (in), P109 TCK (in), P110 TDI (in)
part G pins: P20 VCCAUX@0 (in), P36 VCCAUX@1 (in), P53 VCCAUX@2 (in), P90 VCCAUX@3 (in), P129 VCCAUX@4 (in)
part H pins: P19 VCCINT@0 (in), P28 VCCINT@1 (in), P52 VCCINT@2 (in), P89 VCCINT@3 (in), P128 VCCINT@4 (in)

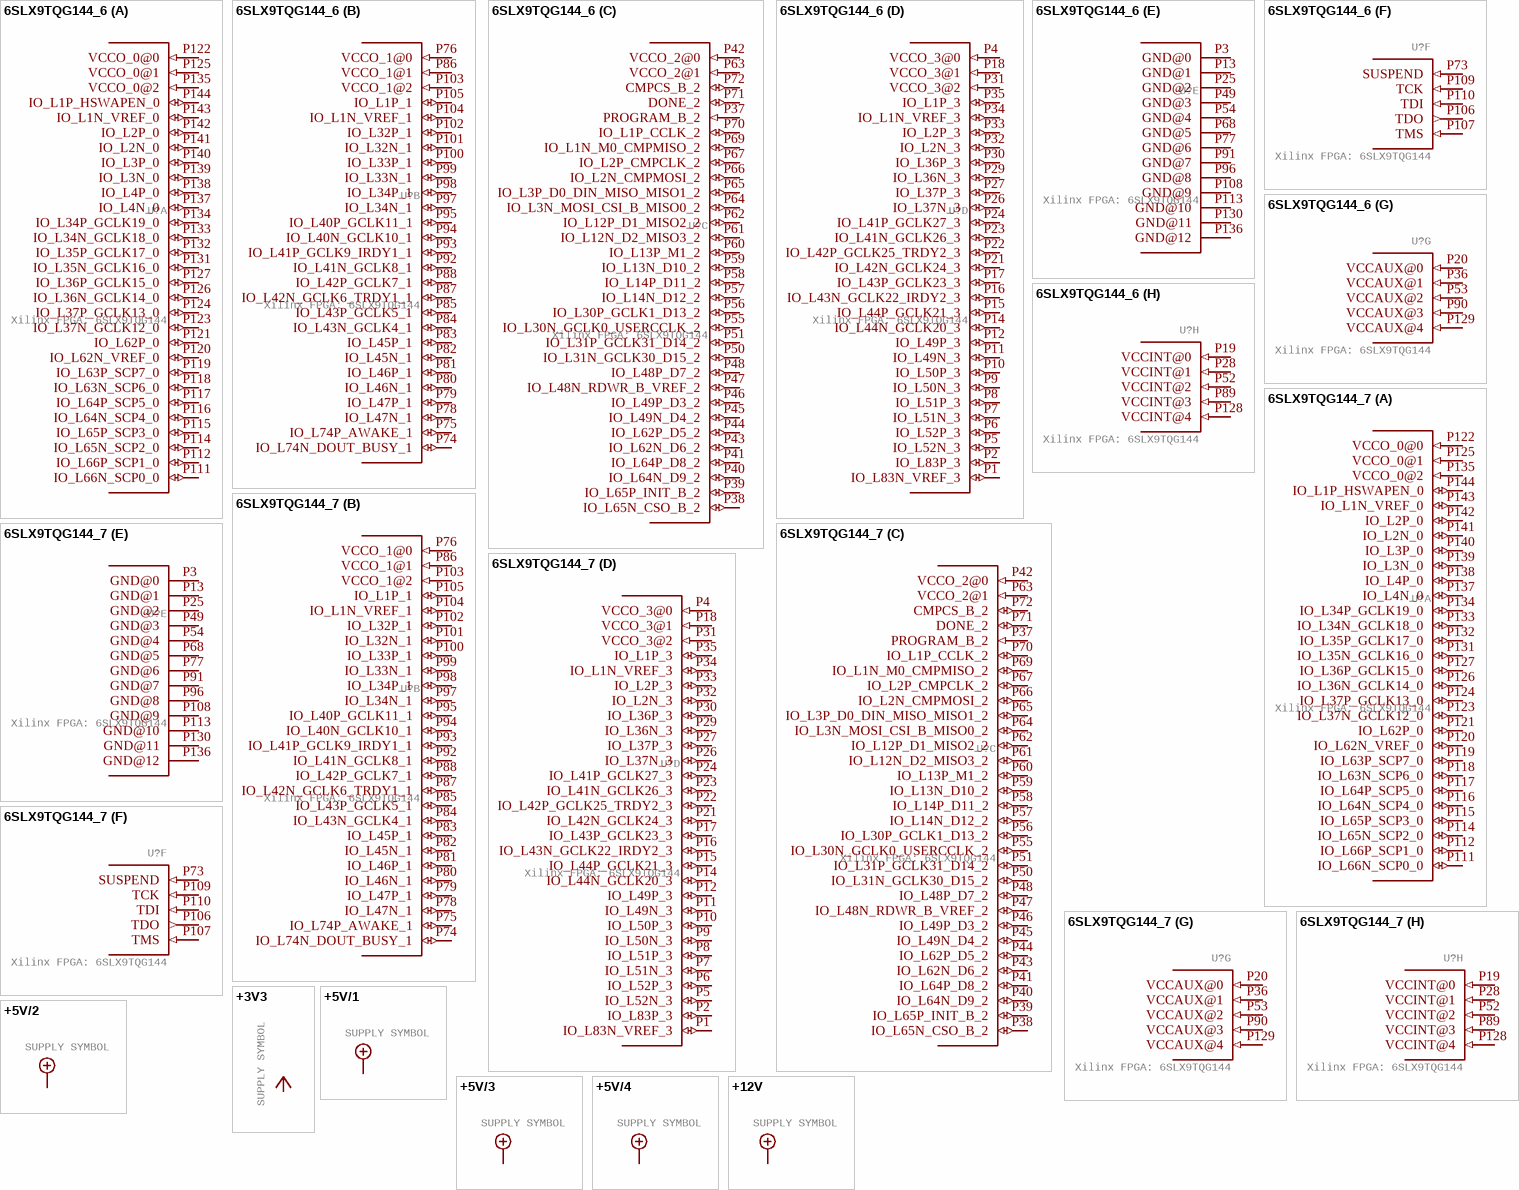
[diagram p2: symbols 6SLX9TQG144_6 to +12V]

## 6SLX9TQG144_6
designator U?, comment Xilinx FPGA: 6SLX9TQG144
GateName_1: B0; SymbolName_1: 6SLX9TQG144_0; GateName_2: B1; SymbolName_2: 6SLX9TQG144_1; GateName_3: B2; SymbolName_3: 6SLX9TQG144_2; GateName_4: B3; SymbolName_4: 6SLX9TQG144_3; GateName_5: BGND; SymbolName_5: 6SLX9TQG144_GND; GateName_6: BNA; SymbolName_6: 6SLX9TQG144_NA; GateName_7: BVCCAUX; SymbolName_7: 6SLX9TQG144_VCCAUX; GateName_8: BVCCINT; SymbolName_8: 6SLX9TQG144_VCCINT; LibraryName: VNA; DeviceSetName: 6SLX9TQG144; Package: TQ144
footprint TQ144
part A pins: P111 IO_L66N_SCP0_0 (io), P112 IO_L66P_SCP1_0 (io), P114 IO_L65N_SCP2_0 (io), P115 IO_L65P_SCP3_0 (io), P116 IO_L64N_SCP4_0 (io), P117 IO_L64P_SCP5_0 (io), P118 IO_L63N_SCP6_0 (io), P119 IO_L63P_SCP7_0 (io), P120 IO_L62N_VREF_0 (io), P121 IO_L62P_0 (io), P122 VCCO_0@0 (in), P123 IO_L37N_GCLK12_0 (io), P124 IO_L37P_GCLK13_0 (io), P125 VCCO_0@1 (in), P126 IO_L36N_GCLK14_0 (io), P127 IO_L36P_GCLK15_0 (io), P131 IO_L35N_GCLK16_0 (io), P132 IO_L35P_GCLK17_0 (io), P133 IO_L34N_GCLK18_0 (io), P134 IO_L34P_GCLK19_0 (io), P135 VCCO_0@2 (in), P137 IO_L4N_0 (io), P138 IO_L4P_0 (io), P139 IO_L3N_0 (io), P140 IO_L3P_0 (io), P141 IO_L2N_0 (io), P142 IO_L2P_0 (io), P143 IO_L1N_VREF_0 (io), P144 IO_L1P_HSWAPEN_0 (io)
part B pins: P74 IO_L74N_DOUT_BUSY_1 (io), P75 IO_L74P_AWAKE_1 (io), P76 VCCO_1@0 (in), P78 IO_L47N_1 (io), P79 IO_L47P_1 (io), P80 IO_L46N_1 (io), P81 IO_L46P_1 (io), P82 IO_L45N_1 (io), P83 IO_L45P_1 (io), P84 IO_L43N_GCLK4_1 (io), P85 IO_L43P_GCLK5_1 (io), P86 VCCO_1@1 (in), P87 IO_L42N_GCLK6_TRDY1_1 (io), P88 IO_L42P_GCLK7_1 (io), P92 IO_L41N_GCLK8_1 (io), P93 IO_L41P_GCLK9_IRDY1_1 (io), P94 IO_L40N_GCLK10_1 (io), P95 IO_L40P_GCLK11_1 (io), P97 IO_L34N_1 (io), P98 IO_L34P_1 (io), P99 IO_L33N_1 (io), P100 IO_L33P_1 (io), P101 IO_L32N_1 (io), P102 IO_L32P_1 (io), P103 VCCO_1@2 (in), P104 IO_L1N_VREF_1 (io), P105 IO_L1P_1 (io)
part C pins: P37 PROGRAM_B_2 (in), P38 IO_L65N_CSO_B_2 (io), P39 IO_L65P_INIT_B_2 (io), P40 IO_L64N_D9_2 (io), P41 IO_L64P_D8_2 (io), P42 VCCO_2@0 (in), P43 IO_L62N_D6_2 (io), P44 IO_L62P_D5_2 (io), P45 IO_L49N_D4_2 (io), P46 IO_L49P_D3_2 (io), P47 IO_L48N_RDWR_B_VREF_2 (io), P48 IO_L48P_D7_2 (io), P50 IO_L31N_GCLK30_D15_2 (io), P51 IO_L31P_GCLK31_D14_2 (io), P55 IO_L30N_GCLK0_USERCCLK_2 (io), P56 IO_L30P_GCLK1_D13_2 (io), P57 IO_L14N_D12_2 (io), P58 IO_L14P_D11_2 (io), P59 IO_L13N_D10_2 (io), P60 IO_L13P_M1_2 (io), P61 IO_L12N_D2_MISO3_2 (io), P62 IO_L12P_D1_MISO2_2 (io), P63 VCCO_2@1 (in), P64 IO_L3N_MOSI_CSI_B_MISO0_2 (io), P65 IO_L3P_D0_DIN_MISO_MISO1_2 (io), P66 IO_L2N_CMPMOSI_2 (io), P67 IO_L2P_CMPCLK_2 (io), P69 IO_L1N_M0_CMPMISO_2 (io), P70 IO_L1P_CCLK_2 (io), P71 DONE_2 (io), P72 CMPCS_B_2 (io)
part D pins: P1 IO_L83N_VREF_3 (io), P2 IO_L83P_3 (io), P4 VCCO_3@0 (in), P5 IO_L52N_3 (io), P6 IO_L52P_3 (io), P7 IO_L51N_3 (io), P8 IO_L51P_3 (io), P9 IO_L50N_3 (io), P10 IO_L50P_3 (io), P11 IO_L49N_3 (io), P12 IO_L49P_3 (io), P14 IO_L44N_GCLK20_3 (io), P15 IO_L44P_GCLK21_3 (io), P16 IO_L43N_GCLK22_IRDY2_3 (io), P17 IO_L43P_GCLK23_3 (io), P18 VCCO_3@1 (in), P21 IO_L42N_GCLK24_3 (io), P22 IO_L42P_GCLK25_TRDY2_3 (io), P23 IO_L41N_GCLK26_3 (io), P24 IO_L41P_GCLK27_3 (io), P26 IO_L37N_3 (io), P27 IO_L37P_3 (io), P29 IO_L36N_3 (io), P30 IO_L36P_3 (io), P31 VCCO_3@2 (in), P32 IO_L2N_3 (io), P33 IO_L2P_3 (io), P34 IO_L1N_VREF_3 (io), P35 IO_L1P_3 (io)
part E pins: P3 GND@0 (power), P13 GND@1 (power), P25 GND@2 (power), P49 GND@3 (power), P54 GND@4 (power), P68 GND@5 (power), P77 GND@6 (power), P91 GND@7 (power), P96 GND@8 (power), P108 GND@9 (power), P113 GND@10 (power), P130 GND@11 (power), P136 GND@12 (power)
part F pins: P73 SUSPEND (in), P106 TDO (out), P107 TMS (in), P109 TCK (in), P110 TDI (in)
part G pins: P20 VCCAUX@0 (in), P36 VCCAUX@1 (in), P53 VCCAUX@2 (in), P90 VCCAUX@3 (in), P129 VCCAUX@4 (in)
part H pins: P19 VCCINT@0 (in), P28 VCCINT@1 (in), P52 VCCINT@2 (in), P89 VCCINT@3 (in), P128 VCCINT@4 (in)

## 6SLX9TQG144_7
designator U?, comment Xilinx FPGA: 6SLX9TQG144
GateName_1: B0; SymbolName_1: 6SLX9TQG144_0; GateName_2: B1; SymbolName_2: 6SLX9TQG144_1; GateName_3: B2; SymbolName_3: 6SLX9TQG144_2; GateName_4: B3; SymbolName_4: 6SLX9TQG144_3; GateName_5: BGND; SymbolName_5: 6SLX9TQG144_GND; GateName_6: BNA; SymbolName_6: 6SLX9TQG144_NA; GateName_7: BVCCAUX; SymbolName_7: 6SLX9TQG144_VCCAUX; GateName_8: BVCCINT; SymbolName_8: 6SLX9TQG144_VCCINT; LibraryName: VNA; DeviceSetName: 6SLX9TQG144; Package: TQ144
footprint TQ144
part A pins: P111 IO_L66N_SCP0_0 (io), P112 IO_L66P_SCP1_0 (io), P114 IO_L65N_SCP2_0 (io), P115 IO_L65P_SCP3_0 (io), P116 IO_L64N_SCP4_0 (io), P117 IO_L64P_SCP5_0 (io), P118 IO_L63N_SCP6_0 (io), P119 IO_L63P_SCP7_0 (io), P120 IO_L62N_VREF_0 (io), P121 IO_L62P_0 (io), P122 VCCO_0@0 (in), P123 IO_L37N_GCLK12_0 (io), P124 IO_L37P_GCLK13_0 (io), P125 VCCO_0@1 (in), P126 IO_L36N_GCLK14_0 (io), P127 IO_L36P_GCLK15_0 (io), P131 IO_L35N_GCLK16_0 (io), P132 IO_L35P_GCLK17_0 (io), P133 IO_L34N_GCLK18_0 (io), P134 IO_L34P_GCLK19_0 (io), P135 VCCO_0@2 (in), P137 IO_L4N_0 (io), P138 IO_L4P_0 (io), P139 IO_L3N_0 (io), P140 IO_L3P_0 (io), P141 IO_L2N_0 (io), P142 IO_L2P_0 (io), P143 IO_L1N_VREF_0 (io), P144 IO_L1P_HSWAPEN_0 (io)
part B pins: P74 IO_L74N_DOUT_BUSY_1 (io), P75 IO_L74P_AWAKE_1 (io), P76 VCCO_1@0 (in), P78 IO_L47N_1 (io), P79 IO_L47P_1 (io), P80 IO_L46N_1 (io), P81 IO_L46P_1 (io), P82 IO_L45N_1 (io), P83 IO_L45P_1 (io), P84 IO_L43N_GCLK4_1 (io), P85 IO_L43P_GCLK5_1 (io), P86 VCCO_1@1 (in), P87 IO_L42N_GCLK6_TRDY1_1 (io), P88 IO_L42P_GCLK7_1 (io), P92 IO_L41N_GCLK8_1 (io), P93 IO_L41P_GCLK9_IRDY1_1 (io), P94 IO_L40N_GCLK10_1 (io), P95 IO_L40P_GCLK11_1 (io), P97 IO_L34N_1 (io), P98 IO_L34P_1 (io), P99 IO_L33N_1 (io), P100 IO_L33P_1 (io), P101 IO_L32N_1 (io), P102 IO_L32P_1 (io), P103 VCCO_1@2 (in), P104 IO_L1N_VREF_1 (io), P105 IO_L1P_1 (io)
part C pins: P37 PROGRAM_B_2 (in), P38 IO_L65N_CSO_B_2 (io), P39 IO_L65P_INIT_B_2 (io), P40 IO_L64N_D9_2 (io), P41 IO_L64P_D8_2 (io), P42 VCCO_2@0 (in), P43 IO_L62N_D6_2 (io), P44 IO_L62P_D5_2 (io), P45 IO_L49N_D4_2 (io), P46 IO_L49P_D3_2 (io), P47 IO_L48N_RDWR_B_VREF_2 (io), P48 IO_L48P_D7_2 (io), P50 IO_L31N_GCLK30_D15_2 (io), P51 IO_L31P_GCLK31_D14_2 (io), P55 IO_L30N_GCLK0_USERCCLK_2 (io), P56 IO_L30P_GCLK1_D13_2 (io), P57 IO_L14N_D12_2 (io), P58 IO_L14P_D11_2 (io), P59 IO_L13N_D10_2 (io), P60 IO_L13P_M1_2 (io), P61 IO_L12N_D2_MISO3_2 (io), P62 IO_L12P_D1_MISO2_2 (io), P63 VCCO_2@1 (in), P64 IO_L3N_MOSI_CSI_B_MISO0_2 (io), P65 IO_L3P_D0_DIN_MISO_MISO1_2 (io), P66 IO_L2N_CMPMOSI_2 (io), P67 IO_L2P_CMPCLK_2 (io), P69 IO_L1N_M0_CMPMISO_2 (io), P70 IO_L1P_CCLK_2 (io), P71 DONE_2 (io), P72 CMPCS_B_2 (io)
part D pins: P1 IO_L83N_VREF_3 (io), P2 IO_L83P_3 (io), P4 VCCO_3@0 (in), P5 IO_L52N_3 (io), P6 IO_L52P_3 (io), P7 IO_L51N_3 (io), P8 IO_L51P_3 (io), P9 IO_L50N_3 (io), P10 IO_L50P_3 (io), P11 IO_L49N_3 (io), P12 IO_L49P_3 (io), P14 IO_L44N_GCLK20_3 (io), P15 IO_L44P_GCLK21_3 (io), P16 IO_L43N_GCLK22_IRDY2_3 (io), P17 IO_L43P_GCLK23_3 (io), P18 VCCO_3@1 (in), P21 IO_L42N_GCLK24_3 (io), P22 IO_L42P_GCLK25_TRDY2_3 (io), P23 IO_L41N_GCLK26_3 (io), P24 IO_L41P_GCLK27_3 (io), P26 IO_L37N_3 (io), P27 IO_L37P_3 (io), P29 IO_L36N_3 (io), P30 IO_L36P_3 (io), P31 VCCO_3@2 (in), P32 IO_L2N_3 (io), P33 IO_L2P_3 (io), P34 IO_L1N_VREF_3 (io), P35 IO_L1P_3 (io)
part E pins: P3 GND@0 (power), P13 GND@1 (power), P25 GND@2 (power), P49 GND@3 (power), P54 GND@4 (power), P68 GND@5 (power), P77 GND@6 (power), P91 GND@7 (power), P96 GND@8 (power), P108 GND@9 (power), P113 GND@10 (power), P130 GND@11 (power), P136 GND@12 (power)
part F pins: P73 SUSPEND (in), P106 TDO (out), P107 TMS (in), P109 TCK (in), P110 TDI (in)
part G pins: P20 VCCAUX@0 (in), P36 VCCAUX@1 (in), P53 VCCAUX@2 (in), P90 VCCAUX@3 (in), P129 VCCAUX@4 (in)
part H pins: P19 VCCINT@0 (in), P28 VCCINT@1 (in), P52 VCCINT@2 (in), P89 VCCINT@3 (in), P128 VCCINT@4 (in)

## +3V3
designator +3V3?, comment SUPPLY SYMBOL
GateName_1: G$1; SymbolName_1: +3V3; LibraryName: VNA; DeviceSetName: +3V3
pins: ?1 +3V3 (power)

## +5V/1
designator SUPPLY?, comment SUPPLY SYMBOL
GateName_1: G$1; SymbolName_1: +05V/1; DeviceSetName: +5V/1; LibraryName: VNA
pins: ?1 +5V/1 (power)

## +5V/2
designator SUPPLY?, comment SUPPLY SYMBOL
GateName_1: G$1; SymbolName_1: +05V/2; DeviceSetName: +5V/2; LibraryName: VNA
pins: ?1 +5V/2 (power)

## +5V/3
designator SUPPLY?, comment SUPPLY SYMBOL
GateName_1: G$1; SymbolName_1: +05V/3; DeviceSetName: +5V/3; LibraryName: VNA
pins: ?1 +5V/3 (power)

## +5V/4
designator SUPPLY?, comment SUPPLY SYMBOL
GateName_1: G$1; SymbolName_1: +05V/4; DeviceSetName: +5V/4; LibraryName: VNA
pins: ?1 +5V/4 (power)

## +12V
designator SUPPLY?, comment SUPPLY SYMBOL
GateName_1: +12V; SymbolName_1: +12V; LibraryName: VNA; DeviceSetName: +12V
pins: ?1 +12V (power)

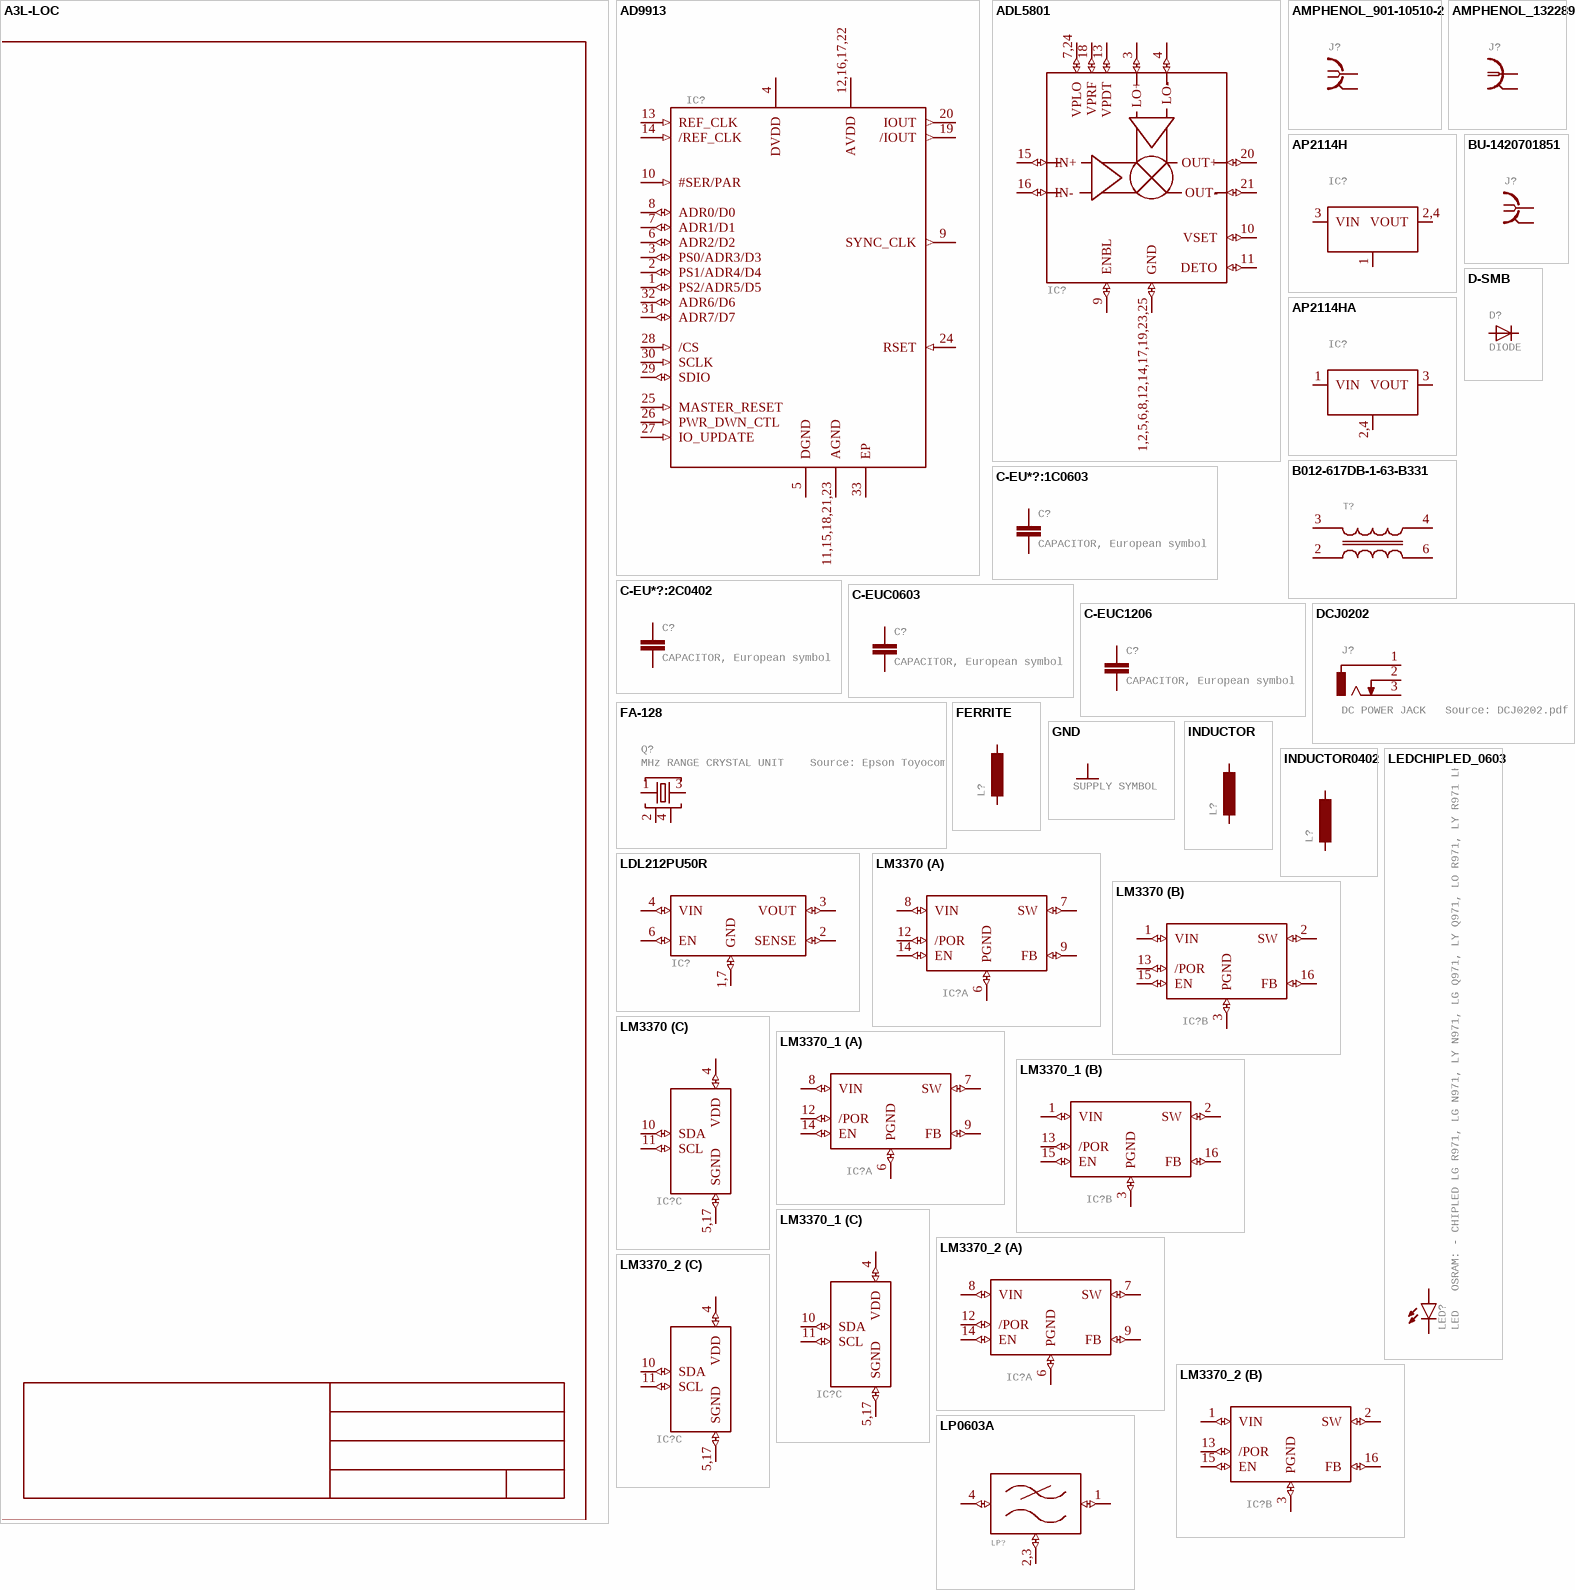
[diagram p3: symbols A3L-LOC to LP0603A]

## A3L-LOC
designator FRAME?, comment FRAME   DIN A3, landscape with location and doc. field  (value not drawn)
GateName_1: G$1; SymbolName_1: A3L-LOC; LibraryName: VNA; DeviceSetName: A3L-LOC

## AD9913
designator IC?
GateName_1: G$1; SymbolName_1: AD9913; LibraryName: VNA; DeviceSetName: AD9913; Package: QFN50P500X500X80-33T310
footprint QFN50P500X500X80-33T310
pins: 1 PS2/ADR5/D5 (io), 2 PS1/ADR4/D4 (io), 3 PS0/ADR3/D3 (io), 4 DVDD (power), 5 DGND (power), 6 ADR2/D2 (io), 7 ADR1/D1 (io), 8 ADR0/D0 (io), 9 SYNC_CLK (out), 10 #SER/PAR (in), 11,15,18,21,23 AGND (power), 12,16,17,22 AVDD (power), 13 REF_CLK (in), 14 /REF_CLK (in), 19 /IOUT (out), 20 IOUT (out), 24 RSET (in), 25 MASTER_RESET (in), 26 PWR_DWN_CTL (in), 27 IO_UPDATE (in), 28 /CS (in), 29 SDIO (io), 30 SCLK (in), 31 ADR7/D7 (io), 32 ADR6/D6 (io), 33 EP (power)

## ADL5801
designator IC?
GateName_1: G$1; SymbolName_1: ADL5801; LibraryName: VNA; DeviceSetName: ADL5801; Package: QFN50P400X400X100-25T250N
footprint QFN50P400X400X100-25T250N
pins: 1,2,5,6,8,12,14,17,19,23,25 GND (io), 3 LO+ (io), 4 LO- (io), 7,24 VPLO (io), 9 ENBL (io), 10 VSET (io), 11 DETO (io), 13 VPDT (io), 15 IN+ (io), 16 IN- (io), 18 VPRF (io), 20 OUT+ (io), 21 OUT- (io)

## AMPHENOL_901-10510-2
designator J?
GateName_1: G$1; SymbolName_1: BNC-FGND; DeviceSetName: AMPHENOL_901-10510-2; LibraryName: VNA; Package: AMPHENOL_901-10510-2
footprint AMPHENOL_901-10510-2
pins: G1-4 2, S 1

## AMPHENOL_132289
designator J?
GateName_1: G$1; SymbolName_1: COAX; DeviceSetName: AMPHENOL_132289; LibraryName: VNA; Package: AMPHENOL_132289
footprint AMPHENOL_132289
pins: 1, G@1-4 2

## AP2114H
designator IC?
GateName_1: G$1; SymbolName_1: VREG; DeviceName: H; DeviceSetName: AP2114; LibraryName: VNA; Package: SOT230P700X180-4
footprint SOT230P700X180-4
pins: 1 GND (power), 2,4 VOUT (power), 3 VIN (power)

## AP2114HA
designator IC?
GateName_1: G$1; SymbolName_1: VREG; DeviceName: HA; DeviceSetName: AP2114; LibraryName: VNA; Package: SOT230P700X180-4
footprint SOT230P700X180-4
pins: 1 VIN (power), 2,4 GND (power), 3 VOUT (power)

## B012-617DB-1-63-B331
designator T?
GateName_1: G$1; SymbolName_1: BALUN_1:1; DeviceSetName: B012-617DB-1-63-B331; LibraryName: VNA; Package: EASTEVER_BALUN
footprint EASTEVER_BALUN
pins: 2 IN- (io), 3 IN+ (io), 4 OUT+ (io), 6 OUT- (io)

## BU-1420701851
designator J?
GateName_1: G$1; SymbolName_1: BNC-FGND; DeviceSetName: BU-1420701851; LibraryName: VNA; Package: BU-1420701851
footprint BU-1420701851
pins: 1, G@1-4 2

## C-EU*?:1C0603
designator C?, comment CAPACITOR, European symbol
GateName_1: G$1; SymbolName_1: C-EU-1; DeviceName: C0603; DeviceSetName: C-EU*?:1; LibraryName: VNA; Package: C0603
footprint C0603
pins: 1, 2

## C-EU*?:2C0402
designator C?, comment CAPACITOR, European symbol
GateName_1: G$1; SymbolName_1: C-EU:1; DeviceName: C0402; DeviceSetName: C-EU*?:2; LibraryName: VNA; Package: C0402
footprint C0402
pins: 1, 2

## C-EUC0603
designator C?, comment CAPACITOR, European symbol
GateName_1: G$1; SymbolName_1: C-EU; DeviceName: C0603; LibraryName: VNA; DeviceSetName: C-EU; Package: C0603
footprint C0603
pins: 1, 2

## C-EUC1206
designator C?, comment CAPACITOR, European symbol
GateName_1: G$1; SymbolName_1: C-EU; DeviceName: C1206; LibraryName: VNA; DeviceSetName: C-EU; Package: C1206
footprint C1206
pins: 1, 2

## D-SMB
designator D?, comment DIODE
GateName_1: G$1; SymbolName_1: D; DeviceName: SMB; DeviceSetName: D-; LibraryName: VNA; Package: SMB
footprint SMB
pins: A, C

## DCJ0202
designator J?, comment DC POWER JACK   Source: DCJ0202.pdf
GateName_1: G$1; SymbolName_1: DC-JACK-SWITCH; LibraryName: VNA; DeviceSetName: DCJ0202; Package: DCJ0202; OC_FARNELL: unknown; OC_NEWARK: unknown
footprint DCJ0202
pins: 1, 2 3, 3 2

## FA-128
designator Q?, comment MHz RANGE CRYSTAL UNIT    Source: Epson Toyocom
GateName_1: G$1; SymbolName_1: Q-SHIELD2; DeviceName: 128; DeviceSetName: FA-; LibraryName: VNA; Package: FA-128
footprint FA-128
pins: 1, 2, 3, 4

## FERRITE
designator L?
GateName_1: G$1; SymbolName_1: L-EU:1; DeviceSetName: FERRITE; LibraryName: VNA; Package: R0402
footprint R0402
pins: 1, 2

## GND
designator GND?, comment SUPPLY SYMBOL
GateName_1: 1; SymbolName_1: GND; LibraryName: VNA; DeviceSetName: GND
pins: ?1 GND (power)

## INDUCTOR
designator L?
GateName_1: G$1; SymbolName_1: L-EU:1; DeviceSetName: INDUCTOR; LibraryName: VNA; Package: INDC2012X100N
footprint INDC2012X100N
pins: 1, 2

## INDUCTOR0402
designator L?
GateName_1: G$1; SymbolName_1: L-EU:1; DeviceName: 0402; DeviceSetName: INDUCTOR; LibraryName: VNA; Package: L0402
footprint L0402
pins: 1, 2

## LDL212PU50R
designator IC?
GateName_1: G$1; SymbolName_1: LDL212; DeviceSetName: LDL212PU50R; LibraryName: VNA; Package: SON95P300X300X100-7T170X240N
footprint SON95P300X300X100-7T170X240N
pins: 1,7 GND (io), 2 SENSE (io), 3 VOUT (io), 4 VIN (io), 6 EN (io)

## LEDCHIPLED_0603
designator LED?, comment LED   OSRAM: - CHIPLED LG R971, LG N971, LY N971, LG Q971, LY Q971, LO R971, LY R971 LH N974, LH R974 LS Q976, LO Q976, LY Q976 LO Q996 - Hyper CHIPLED LW Q18S LB Q993, LB Q99A, LB R99A - SideLED LS A670, LO A670, LY A670, LG A670, LP A670 LB A673, LV A673, LT A673, LW A673 LH A674 LY A675 LS A676, LA A676, LO A676, LY A676, LW A676 LS A679, LY A679, LG A679 -  Hyper Micro SIDELEDÂ® LS Y876, LA Y876, LO Y876, LY Y876 LT Y87S - SmartLED LW L88C, LW L88S LB L89C, LB L89S, LG L890 LS L89K, LO L89K, LY L89K LS L896, LA L896, LO L896, LY L896 - TOPLED LS T670, LO T670, LY T670, LG T670, LP T670 LSG T670, LSP T670, LSY T670, LOP T670, LYG T670 LG T671, LOG T671, LSG T671 LB T673, LV T673, LT T673, LW T673 LH T674 LS T676, LA T676, LO T676, LY T676, LB T676, LH T676, LSB T676, LW T676 LB T67C, LV T67C, LT T67C, LS T67K, LO T67K, LY T67K, LW E67C LS E67B, LA E67B, LO E67B, LY E67B, LB E67C, LV E67C, LT E67C LW T67C LS T679, LY T679, LG T679 LS T770, LO T770, LY T770, LG T770, LP T770 LB T773, LV T773, LT T773, LW T773 LH T774 LS E675, LA E675, LY E675, LS T675 LS T776, LA T776, LO T776, LY T776, LB T776 LHGB T686 LT T68C, LB T68C - Hyper Mini TOPLEDÂ® LB M676 - Mini TOPLED SantanaÂ® LG M470 LS M47K, LO M47K, LY M47K    Source: http://www.osram.convergy.de   LUXEON: - LUMILEDÂ® LXK2-PW12-R00, LXK2-PW12-S00, LXK2-PW14-U00, LXK2-PW14-V00 LXK2-PM12-R00, LXK2-PM12-S00, LXK2-PM14-U00 LXK2-PE12-Q00, LXK2-PE12-R00, LXK2-PE12-S00, LXK2-PE14-T00, LXK2-PE14-U00 LXK2-PB12-K00, LXK2-PB12-L00, LXK2-PB12-M00, LXK2-PB14-N00, LXK2-PB14-P00, LXK2-PB14-Q00 LXK2-PR12-L00, LXK2-PR12-M00, LXK2-PR14-Q00, LXK2-PR14-R00 LXK2-PD12-Q00, LXK2-PD12-R00, LXK2-PD12-S00 LXK2-PH12-R00, LXK2-PH12-S00 LXK2-PL12-P00, LXK2-PL12-Q00, LXK2-PL12-R00    Source: www.luxeon.com   KINGBRIGHT:   KA-3528ASYC Source: www.kingbright.com
GateName_1: G$1; DeviceName: CHIPLED_0603; POPULARITY: 0; SymbolName_1: LED; LibraryName: VNA; DeviceSetName: LED; Package: CHIPLED_0603
footprint CHIPLED_0603
pins: A, C

## LM3370
designator IC?
GateName_1: BUCK1; SymbolName_1: LM3370_BUCK; GateName_2: BUCK2; GateName_3: CONTROL; SymbolName_3: LM3370_CONTROL; DeviceSetName: LM3370; SymbolName_2: LM3370_BUCK; LibraryName: VNA; Package: SON50P400X500X80-17T260X400N
footprint SON50P400X500X80-17T260X400N
part A pins: 6 PGND (io), 7 SW (io), 8 VIN (io), 9 FB (io), 12 /POR (io), 14 EN (io)
part B pins: 1 VIN (io), 2 SW (io), 3 PGND (io), 13 /POR (io), 15 EN (io), 16 FB (io)
part C pins: 4 VDD (io), 5,17 SGND (io), 10 SDA (io), 11 SCL (io)

## LM3370_1
designator IC?
GateName_1: BUCK1; SymbolName_1: LM3370_BUCK; GateName_2: BUCK2; GateName_3: CONTROL; SymbolName_3: LM3370_CONTROL; DeviceSetName: LM3370; SymbolName_2: LM3370_BUCK; LibraryName: VNA; Package: SON50P400X500X80-17T260X400N
footprint SON50P400X500X80-17T260X400N
part A pins: 6 PGND (io), 7 SW (io), 8 VIN (io), 9 FB (io), 12 /POR (io), 14 EN (io)
part B pins: 1 VIN (io), 2 SW (io), 3 PGND (io), 13 /POR (io), 15 EN (io), 16 FB (io)
part C pins: 4 VDD (io), 5,17 SGND (io), 10 SDA (io), 11 SCL (io)

## LM3370_2
designator IC?
GateName_1: BUCK1; SymbolName_1: LM3370_BUCK; GateName_2: BUCK2; GateName_3: CONTROL; SymbolName_3: LM3370_CONTROL; DeviceSetName: LM3370; SymbolName_2: LM3370_BUCK; LibraryName: VNA; Package: SON50P400X500X80-17T260X400N
footprint SON50P400X500X80-17T260X400N
part A pins: 6 PGND (io), 7 SW (io), 8 VIN (io), 9 FB (io), 12 /POR (io), 14 EN (io)
part B pins: 1 VIN (io), 2 SW (io), 3 PGND (io), 13 /POR (io), 15 EN (io), 16 FB (io)
part C pins: 4 VDD (io), 5,17 SGND (io), 10 SDA (io), 11 SCL (io)

## LP0603A
designator LP?
GateName_1: G$1; SymbolName_1: LOWPASS; DeviceSetName: LP0603A; LibraryName: VNA; Package: FILTRDFN160X84X70-4N
footprint FILTRDFN160X84X70-4N
pins: 1 OUT (io), 2,3 GND (io), 4 IN (io)

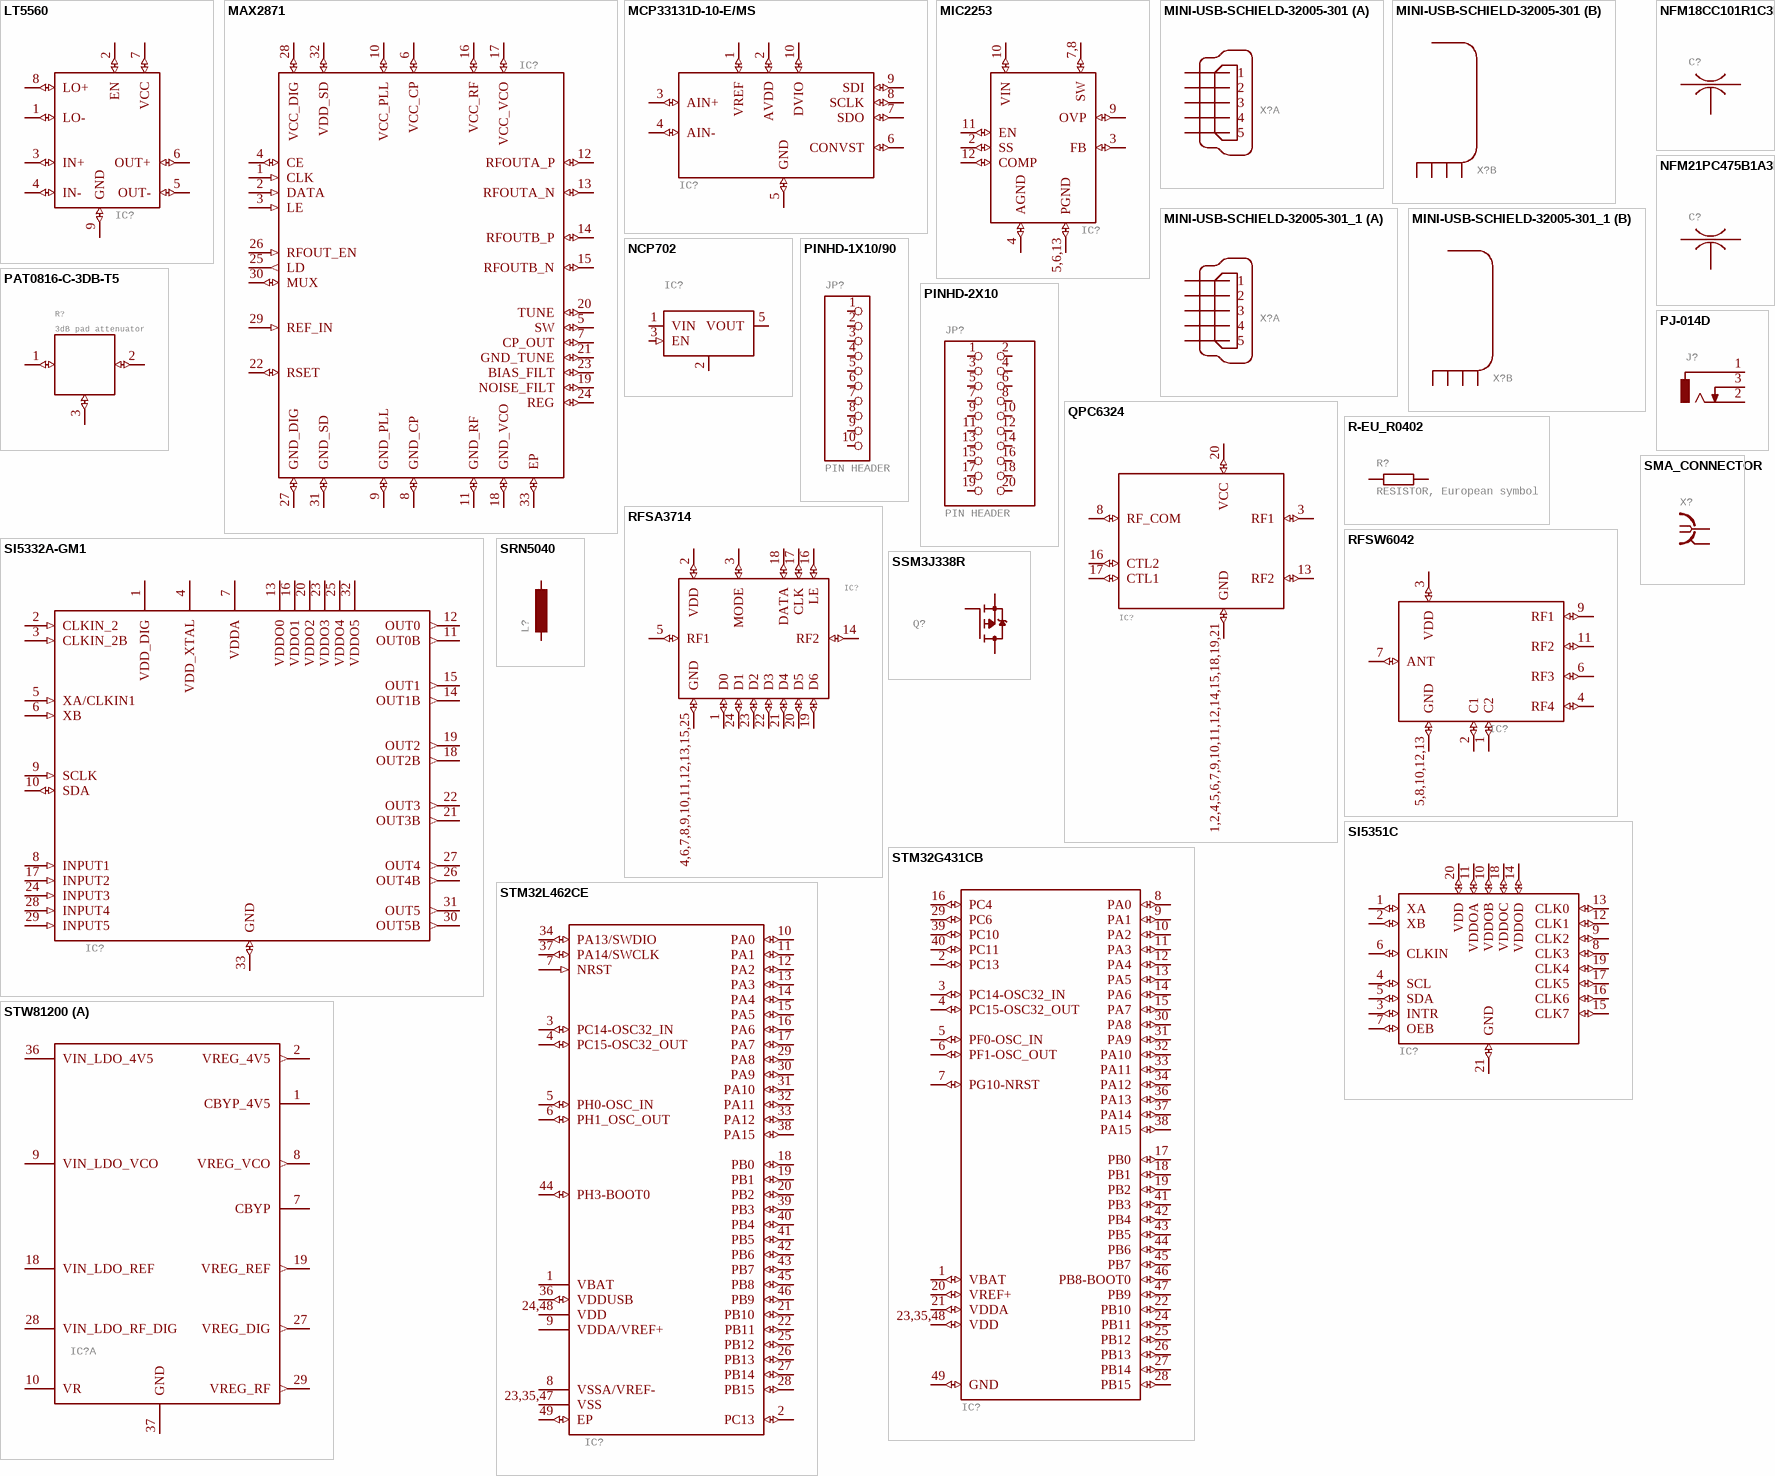
[diagram p4: symbols LT5560 to STW81200]

## LT5560
designator IC?
GateName_1: G$1; SymbolName_1: LT5560; LibraryName: VNA; DeviceSetName: LT5560; Package: SON50P300X300X80-9T165X238
footprint SON50P300X300X80-9T165X238
pins: 1 LO- (io), 2 EN (io), 3 IN+ (io), 4 IN- (io), 5 OUT- (io), 6 OUT+ (io), 7 VCC (io), 8 LO+ (io), 9 GND (io)

## MAX2871
designator IC?
GateName_1: G$1; SymbolName_1: MAX2871; LibraryName: VNA; DeviceSetName: MAX2871; Package: QFN50P500X500X80-33T310
footprint QFN50P500X500X80-33T310
pins: 1 CLK (in), 2 DATA (in), 3 LE (in), 4 CE (io), 5 SW (io), 6 VCC_CP (io), 7 CP_OUT (io), 8 GND_CP (io), 9 GND_PLL (io), 10 VCC_PLL (io), 11 GND_RF (io), 12 RFOUTA_P (io), 13 RFOUTA_N (io), 14 RFOUTB_P (io), 15 RFOUTB_N (io), 16 VCC_RF (io), 17 VCC_VCO (io), 18 GND_VCO (io), 19 NOISE_FILT (io), 20 TUNE (io), 21 GND_TUNE (io), 22 RSET (io), 23 BIAS_FILT (io), 24 REG (io), 25 LD (out), 26 RFOUT_EN (in), 27 GND_DIG (io), 28 VCC_DIG (io), 29 REF_IN (in), 30 MUX (io), 31 GND_SD (io), 32 VDD_SD (io), 33 EP (io)

## MCP33131D-10-E/MS
designator IC?
GateName_1: G$1; SymbolName_1: MCP33131D-10-E/MS; LibraryName: VNA; DeviceSetName: MCP33131D-10-E/MS; Package: SOP50P490X110-10N
footprint SOP50P490X110-10N
pins: 1 VREF (io), 2 AVDD (io), 3 AIN+ (io), 4 AIN- (io), 5 GND (io), 6 CONVST (io), 7 SDO (io), 8 SCLK (io), 9 SDI (io), 10 DVIO (io)

## MIC2253
designator IC?
GateName_1: G$1; SymbolName_1: MIC2253; LibraryName: VNA; DeviceSetName: MIC2253; Package: SON50P300X300X90-13T170X240N
footprint SON50P300X300X90-13T170X240N
pins: 2 SS (io), 3 FB (io), 4 AGND (io), 5,6,13 PGND (io), 7,8 SW (io), 9 OVP (io), 10 VIN (io), 11 EN (io), 12 COMP (io)

## MINI-USB-SCHIELD-32005-301
designator X?, comment MINI USB-B Conector   Source: www.cypressindustries.com  (value not drawn)
GateName_1: G$1; SymbolName_1: MINI-USB-5; GateName_2: S; SymbolName_2: SHIELD_4; DeviceName: 32005-301; DeviceSetName: MINI-USB-SCHIELD-; LibraryName: VNA; Package: 32005-301; OC_FARNELL: unknown; OC_NEWARK: unknown
footprint 32005-301
part A pins: 1, 2, 3, 4, 5
part B pins: M1 S1, M2 S2, M3 S3, M4 S4

## MINI-USB-SCHIELD-32005-301_1
designator X?, comment MINI USB-B Conector   Source: www.cypressindustries.com  (value not drawn)
GateName_1: G$1; SymbolName_1: MINI-USB-5; GateName_2: S; SymbolName_2: SHIELD_4; DeviceName: 32005-301; DeviceSetName: MINI-USB-SCHIELD-; LibraryName: VNA; Package: 32005-301; OC_FARNELL: unknown; OC_NEWARK: unknown
footprint 32005-301
part A pins: 1, 2, 3, 4, 5
part B pins: M1 S1, M2 S2, M3 S3, M4 S4

## NCP702
designator IC?
GateName_1: G$1; SymbolName_1: VREG_EN; DeviceSetName: NCP702; LibraryName: VNA; Package: SOT95P240X110-5
footprint SOT95P240X110-5
pins: 1 VIN (power), 2 GND (power), 3 EN (in), 5 VOUT (power)

## NFM18CC101R1C3D
designator C?
GateName_1: G$1; SymbolName_1: C-FILTER; DeviceSetName: NFM18CC101R1C3D; LibraryName: VNA; Package: NFM18PC
footprint NFM18PC
pins: 1, 2 2@1, 3, 4 2@2

## NFM21PC475B1A3D
designator C?
GateName_1: G$1; SymbolName_1: C-FILTER; DeviceSetName: NFM21PC475B1A3D; LibraryName: VNA; Package: NFM21PC
footprint NFM21PC
pins: 1, 2 2@1, 3, 4 2@2

## PAT0816-C-3DB-T5
designator R?, comment 3dB pad attenuator
GateName_1: G$1; SymbolName_1: ATTENUATOR_3PIN; DeviceSetName: PAT0816-C-3DB-T5; LibraryName: VNA; Package: PAT0816
footprint PAT0816
pins: 1 IN (io), 2 OUT (io), 3 GND (io)

## PINHD-1X10/90
designator JP?, comment PIN HEADER
GateName_1: A; SymbolName_1: PINHD10; DeviceName: /90; DeviceSetName: PINHD-1X10; LibraryName: VNA; Package: 1X10/90
footprint 1X10/90
pins: 1, 2, 3, 4, 5, 6, 7, 8, 9, 10

## PINHD-2X10
designator JP?, comment PIN HEADER
GateName_1: A; SymbolName_1: PINH2X10; DeviceSetName: PINHD-2X10; LibraryName: VNA; Package: 2X10
footprint 2X10
pins: 1, 2, 3, 4, 5, 6, 7, 8, 9, 10, 11, 12, 13, 14, 15, 16, 17, 18, 19, 20

## PJ-014D
designator J?
GateName_1: G$1; SymbolName_1: DC-JACK-SWITCH; DeviceSetName: PJ-014D; LibraryName: VNA; Package: PJ-014D
footprint PJ-014D
pins: 1, 2, 3

## QPC6324
designator IC?
GateName_1: G$1; SymbolName_1: QPC6324; LibraryName: VNA; DeviceSetName: QPC6324; Package: QFN50P400X400X75-21T206
footprint QFN50P400X400X75-21T206
pins: 1,2,4,5,6,7,9,10,11,12,14,15,18,19,21 GND (io), 3 RF1 (io), 8 RF_COM (io), 13 RF2 (io), 16 CTL2 (io), 17 CTL1 (io), 20 VCC (io)

## R-EU_R0402
designator R?, comment RESISTOR, European symbol
GateName_1: G$1; SymbolName_1: R-EU; DeviceName: R0402; DeviceSetName: R-EU_; LibraryName: VNA; Package: R0402
footprint R0402
pins: 1, 2

## RFSA3714
designator IC?
GateName_1: G$1; SymbolName_1: F1958; DeviceSetName: RFSA3714; LibraryName: VNA; Package: QFN50P400X400X75-25T270
footprint QFN50P400X400X75-25T270
pins: 1 D0 (io), 2 VDD (io), 3 MODE (io), 4,6,7,8,9,10,11,12,13,15,25 GND (io), 5 RF1 (io), 14 RF2 (io), 16 LE (io), 17 CLK (io), 18 DATA (io), 19 D6 (io), 20 D5 (io), 21 D4 (io), 22 D3 (io), 23 D2 (io), 24 D1 (io)

## RFSW6042
designator IC?
GateName_1: G$1; SymbolName_1: RFSW6042; LibraryName: VNA; DeviceSetName: RFSW6042; Package: QFN40P180X180X55-13T76N
footprint QFN40P180X180X55-13T76N
pins: 1 C2 (io), 2 C1 (io), 3 VDD (io), 4 RF4 (io), 5,8,10,12,13 GND (io), 6 RF3 (io), 7 ANT (io), 9 RF1 (io), 11 RF2 (io)

## SI5332A-GM1
designator IC?
GateName_1: G$1; SymbolName_1: SI5332A-GM1; LibraryName: VNA; DeviceSetName: SI5332A-GM1; Package: QFN50P500X500X100-33T345N
footprint QFN50P500X500X100-33T345N
pins: 1 VDD_DIG (power), 2 CLKIN_2 (in), 3 CLKIN_2B (in), 4 VDD_XTAL (power), 5 XA/CLKIN1 (in), 6 XB (in), 7 VDDA (power), 8 INPUT1 (in), 9 SCLK (in), 10 SDA (io), 11 OUT0B (out), 12 OUT0 (out), 13 VDDO0 (power), 14 OUT1B (out), 15 OUT1 (out), 16 VDDO1 (power), 17 INPUT2 (in), 18 OUT2B (out), 19 OUT2 (out), 20 VDDO2 (power), 21 OUT3B (out), 22 OUT3 (out), 23 VDDO3 (power), 24 INPUT3 (in), 25 VDDO4 (power), 26 OUT4B (out), 27 OUT4 (out), 28 INPUT4 (in), 29 INPUT5 (in), 30 OUT5B (out), 31 OUT5 (out), 32 VDDO5 (power), 33 GND (io)

## SI5351C
designator IC?
GateName_1: G$1; SymbolName_1: SI5351C; LibraryName: VNA; DeviceSetName: SI5351C; Package: QFN50P400X400X90-21T270N
footprint QFN50P400X400X90-21T270N
pins: 1 XA (io), 2 XB (io), 3 INTR (io), 4 SCL (io), 5 SDA (io), 6 CLKIN (io), 7 OEB (io), 8 CLK3 (io), 9 CLK2 (io), 10 VDDOB (io), 11 VDDOA (io), 12 CLK1 (io), 13 CLK0 (io), 14 VDDOD (io), 15 CLK7 (io), 16 CLK6 (io), 17 CLK5 (io), 18 VDDOC (io), 19 CLK4 (io), 20 VDD (io), 21 GND (io)

## SMA_CONNECTOR
designator X?
GateName_1: G$1; SymbolName_1: BNC-FGND; DeviceSetName: SMA_CONNECTOR; LibraryName: VNA; Package: J502-ND-142-0711-821/826
footprint J502-ND-142-0711-821/826
pins: 1, G@1-4 2

## SRN5040
designator L?
GateName_1: G$1; SymbolName_1: L-EU; DeviceSetName: SRN5040; LibraryName: VNA; Package: SRN5040
footprint SRN5040
pins: P$1 1, P$2 2

## SSM3J338R
designator Q?
GateName_1: G$1; SymbolName_1: P-MOSFET; DeviceSetName: SSM3J338R; LibraryName: VNA; Package: SOTFL95P240X80-3N
footprint SOTFL95P240X80-3N
pins: 1 G, 2 S, 3 D

## STM32G431CB
designator IC?
GateName_1: G$1; SymbolName_1: STM32G431CB; LibraryName: VNA; DeviceSetName: STM32G431CB; Package: QFN50P700X700X60-49T560N
footprint QFN50P700X700X60-49T560N
pins: 1 VBAT (io), 2 PC13 (io), 3 PC14-OSC32_IN (io), 4 PC15-OSC32_OUT (io), 5 PF0-OSC_IN (io), 6 PF1-OSC_OUT (io), 7 PG10-NRST (io), 8 PA0 (io), 9 PA1 (io), 10 PA2 (io), 11 PA3 (io), 12 PA4 (io), 13 PA5 (io), 14 PA6 (io), 15 PA7 (io), 16 PC4 (io), 17 PB0 (io), 18 PB1 (io), 19 PB2 (io), 20 VREF+ (io), 21 VDDA (io), 22 PB10 (io), 23,35,48 VDD (io), 24 PB11 (io), 25 PB12 (io), 26 PB13 (io), 27 PB14 (io), 28 PB15 (io), 29 PC6 (io), 30 PA8 (io), 31 PA9 (io), 32 PA10 (io), 33 PA11 (io), 34 PA12 (io), 36 PA13 (io), 37 PA14 (io), 38 PA15 (io), 39 PC10 (io), 40 PC11 (io), 41 PB3 (io), 42 PB4 (io), 43 PB5 (io), 44 PB6 (io), 45 PB7 (io), 46 PB8-BOOT0 (io), 47 PB9 (io), 49 GND (io)